# Altium integrated library Motorola Microcontroller 32-Bit.IntLib: 337 symbols (part 4 of 29)
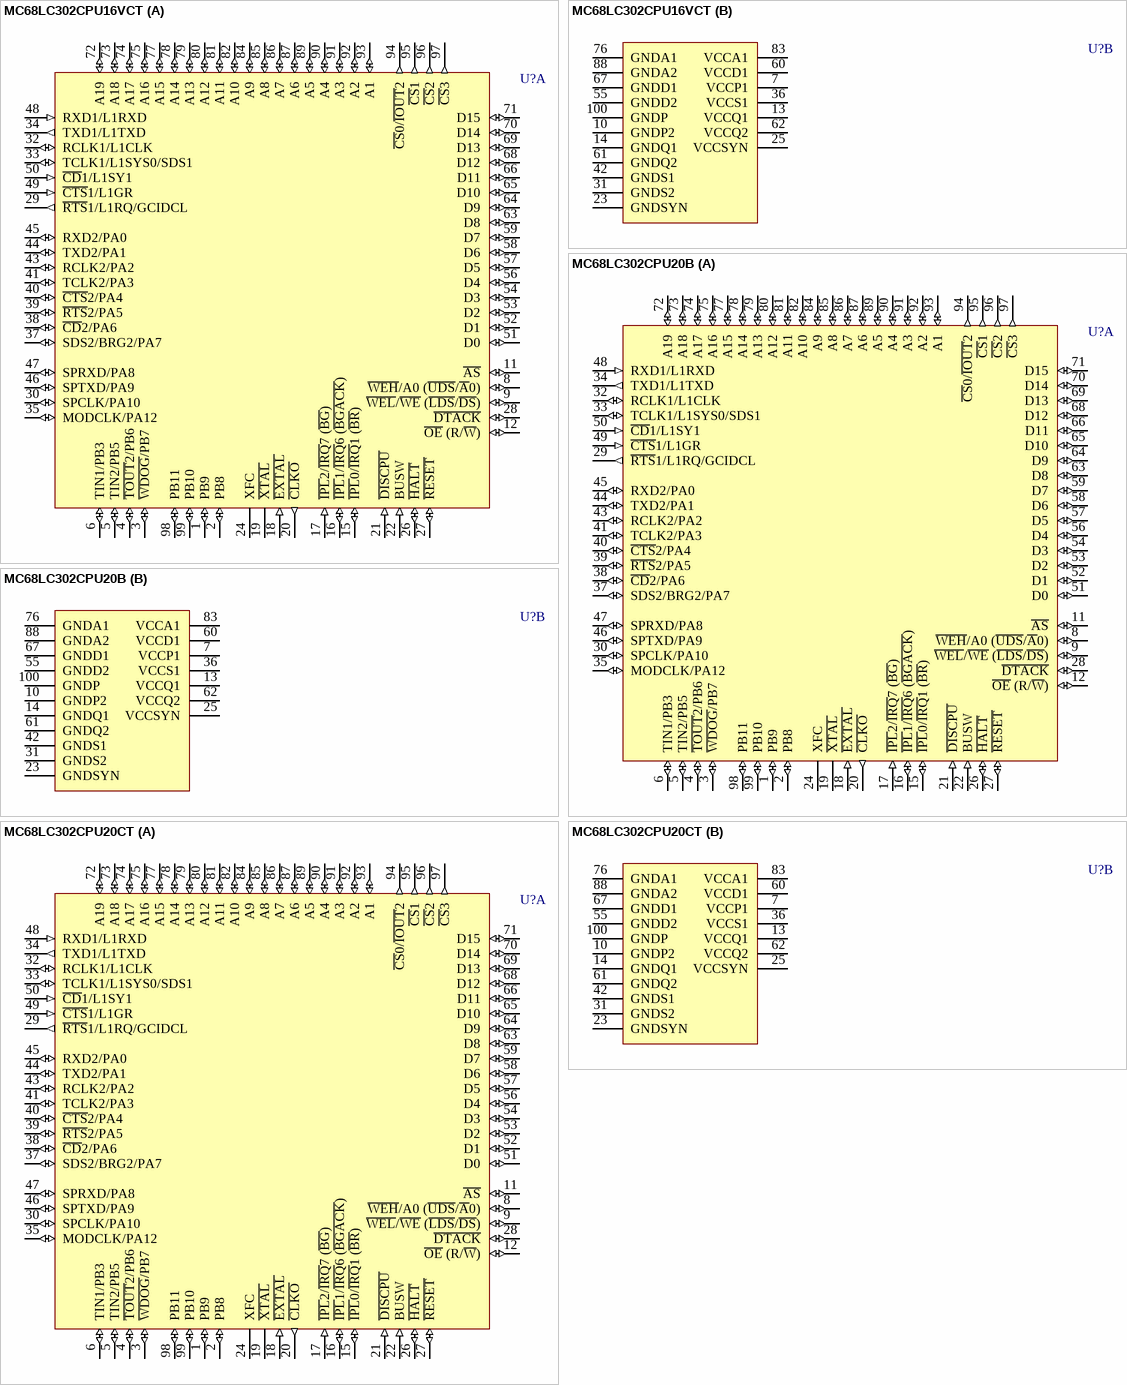
[diagram p243: symbols MC68LC302CPU16VCT to MC68LC302CPU20CT]

## MC68LC302CPU20CT
designator U?
Low Power Integrated Multiprotocol Processor; Published: 21-Mar-2003; LatestRevisionDate: 13-Apr-2006; LatestRevisionNote: IPC-7351 Footprint Added.; DatasheetVersion: Jan-1995; PackageVersion: 1999; PackageReference: 983-01; Publisher: Altium Limited; PackageDescription: 100-Pin Thin Quad Flat Pack 0.5 mm Pitch; ComponentLink1Description: Manufacturer Link; ComponentLink1URL: http://www.freescale.com/; ComponentLink2Description: Datasheet; ComponentLink2URL: http://www.freescale.com/files/netcomm/doc/data_sheet/MC68LC302.pdf
footprint 983-01_N (Thin QFP, 100-Leads, Body 14x14mm, Pitch 0.5mm, IPC Medium Density)
footprint 983-01_L (Thin QFP, 100-Leads, Body 14x14mm, Pitch 0.5mm, IPC High Density)
footprint 983-01_M (Thin QFP, 100-Leads, Body 14x14mm, Pitch 0.5mm, IPC Low Density)
3D model MC68LC302-983 (100-Pin Thin Quad Flat Pack 0.5 mm Pitch)
part A pins: 1 PB9 (io), 2 PB8 (io), 3 ~{WDOG}/PB7 (io), 4 ~{TOUT}2/PB6 (io), 5 TIN2/PB5 (io), 6 TIN1/PB3 (io), 8 ~{WEH}/A0 (~{UDS}/~{A}0) (io), 9 ~{WEL}/~{WE} (~{LDS}/~{DS}) (io), 11 ~{AS} (io), 12 ~{OE} (R/~{W}) (io), 15 ~{IPL}0/~{IRQ}1 (~{BR}) (io), 16 ~{IPL}1/~{IRQ}6 (~{BGACK}) (io), 17 ~{IPL}2/~{IRQ}7 (~{BG}) (in), 18 ~{EXTAL} (in), 19 ~{XTAL}, 20 ~{CLKO} (out), 21 ~{DISCPU} (in), 22 BUSW (in), 24 XFC, 26 ~{HALT} (io), 27 ~{RESET} (io), 28 ~{DTACK} (io), 29 ~{RTS}1/L1RQ/GCIDCL (out), 30 SPCLK/PA10 (io), 32 RCLK1/L1CLK (io), 33 TCLK1/L1SYS0/SDS1 (io), 34 TXD1/L1TXD (out), 35 MODCLK/PA12 (io), 37 SDS2/BRG2/PA7 (io), 38 ~{CD}2/PA6 (io), 39 ~{RTS}2/PA5 (io), 40 ~{CTS}2/PA4 (io), 41 TCLK2/PA3 (io), 43 RCLK2/PA2 (io), 44 TXD2/PA1 (io), 45 RXD2/PA0 (io), 46 SPTXD/PA9 (io), 47 SPRXD/PA8 (io), 48 RXD1/L1RXD (in), 49 ~{CTS}1/L1GR (in), 50 ~{CD}1/L1SY1 (in), 51 D0 (io), 52 D1 (io), 53 D2 (io), 54 D3 (io), 56 D4 (io), 57 D5 (io), 58 D6 (io), 59 D7 (io), 63 D8 (io), 64 D9 (io), 65 D10 (io), 66 D11 (io), 68 D12 (io), 69 D13 (io), 70 D14 (io), 71 D15 (io), 72 A19 (io), 73 A18 (io), 74 A17 (io), 75 A16 (io), 77 A15 (io), 78 A14 (io), 79 A13 (io), 80 A12 (io), 81 A11 (io), 82 A10 (io), 84 A9 (io), 85 A8 (io), 86 A7 (io), 87 A6 (io), 89 A5 (io), 90 A4 (io), 91 A3 (io), 92 A2 (io), 93 A1 (io), 94 ~{CS}0/~{IOUT}2 (out), 95 ~{CS}1 (out), 96 ~{CS}2 (out), 97 ~{CS}3 (out), 98 PB11 (io), 99 PB10 (io)
part B pins: 7 VCCP1 (power), 10 GNDP2 (power), 13 VCCQ1 (power), 14 GNDQ1 (power), 23 GNDSYN (power), 25 VCCSYN (power), 31 GNDS2 (power), 36 VCCS1 (power), 42 GNDS1 (power), 55 GNDD2 (power), 60 VCCD1 (power), 61 GNDQ2 (power), 62 VCCQ2 (power), 67 GNDD1 (power), 76 GNDA1 (power), 83 VCCA1 (power), 88 GNDA2 (power), 100 GNDP (power)

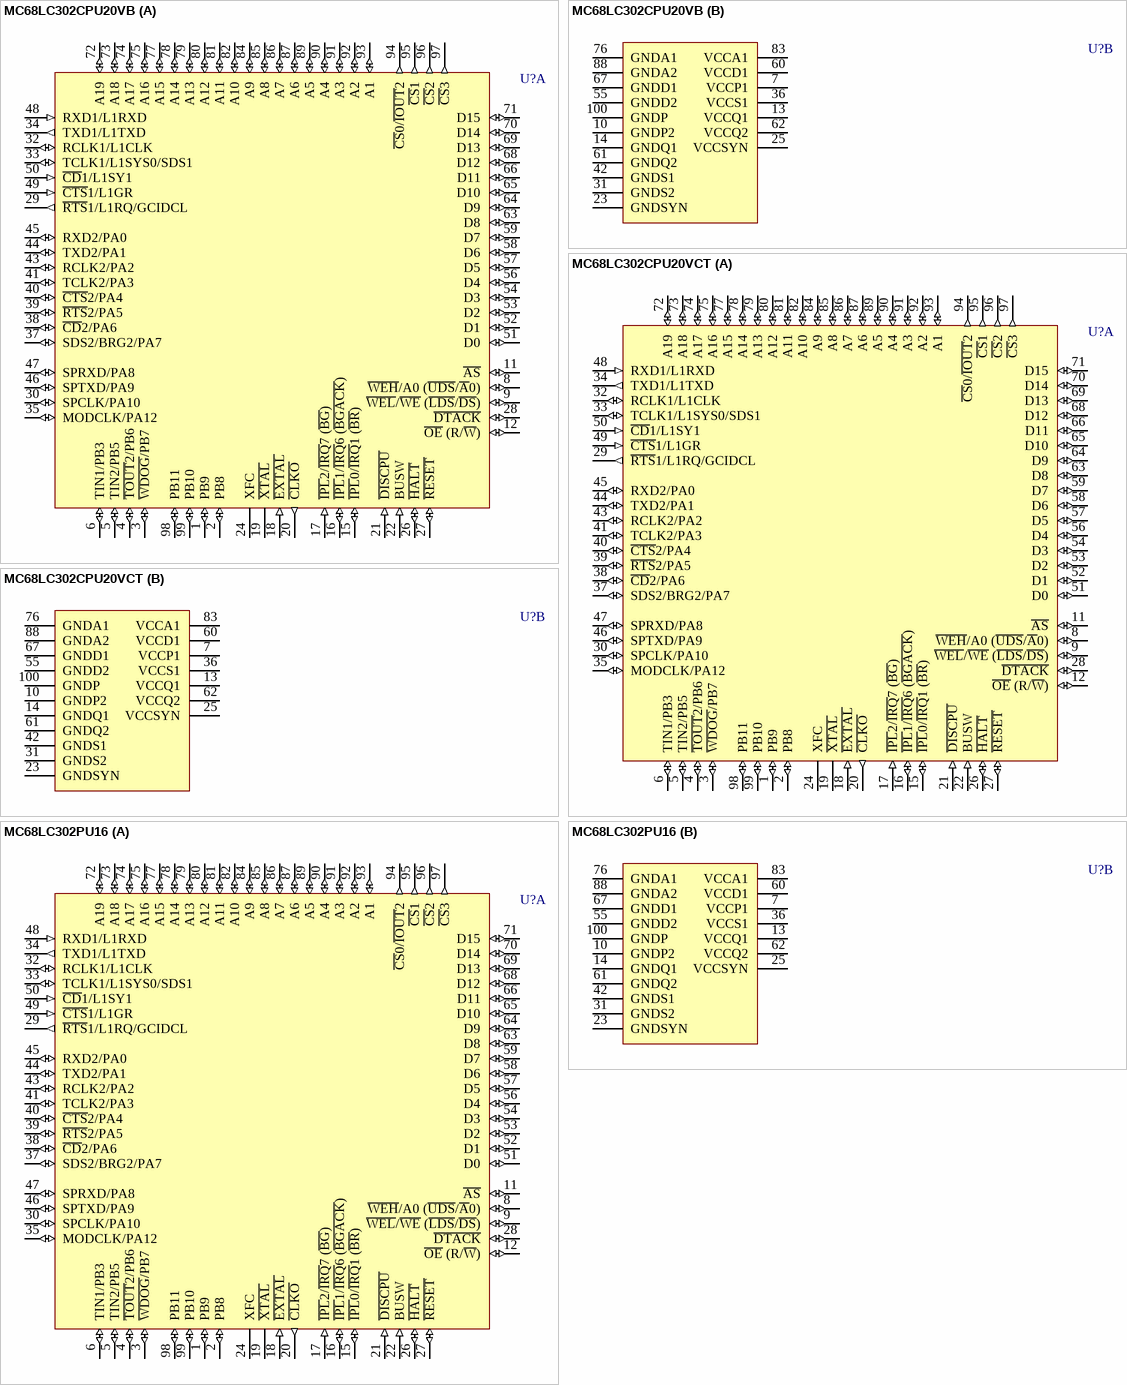
[diagram p33: symbols MC68LC302CPU20VB to MC68LC302PU16]

## MC68LC302CPU20VB
designator U?
Low Power Integrated Multiprotocol Processor; Published: 21-Mar-2003; LatestRevisionDate: 13-Apr-2006; LatestRevisionNote: IPC-7351 Footprint Added.; DatasheetVersion: Jan-1995; PackageVersion: 1999; PackageReference: 983-01; Publisher: Altium Limited; PackageDescription: 100-Pin Thin Quad Flat Pack 0.5 mm Pitch; ComponentLink1Description: Manufacturer Link; ComponentLink1URL: http://www.freescale.com/; ComponentLink2Description: Datasheet; ComponentLink2URL: http://www.freescale.com/files/netcomm/doc/data_sheet/MC68LC302.pdf
footprint 983-01_N (Thin QFP, 100-Leads, Body 14x14mm, Pitch 0.5mm, IPC Medium Density)
footprint 983-01_L (Thin QFP, 100-Leads, Body 14x14mm, Pitch 0.5mm, IPC High Density)
footprint 983-01_M (Thin QFP, 100-Leads, Body 14x14mm, Pitch 0.5mm, IPC Low Density)
3D model MC68LC302-983 (100-Pin Thin Quad Flat Pack 0.5 mm Pitch)
part A pins: 1 PB9 (io), 2 PB8 (io), 3 ~{WDOG}/PB7 (io), 4 ~{TOUT}2/PB6 (io), 5 TIN2/PB5 (io), 6 TIN1/PB3 (io), 8 ~{WEH}/A0 (~{UDS}/~{A}0) (io), 9 ~{WEL}/~{WE} (~{LDS}/~{DS}) (io), 11 ~{AS} (io), 12 ~{OE} (R/~{W}) (io), 15 ~{IPL}0/~{IRQ}1 (~{BR}) (io), 16 ~{IPL}1/~{IRQ}6 (~{BGACK}) (io), 17 ~{IPL}2/~{IRQ}7 (~{BG}) (in), 18 ~{EXTAL} (in), 19 ~{XTAL}, 20 ~{CLKO} (out), 21 ~{DISCPU} (in), 22 BUSW (in), 24 XFC, 26 ~{HALT} (io), 27 ~{RESET} (io), 28 ~{DTACK} (io), 29 ~{RTS}1/L1RQ/GCIDCL (out), 30 SPCLK/PA10 (io), 32 RCLK1/L1CLK (io), 33 TCLK1/L1SYS0/SDS1 (io), 34 TXD1/L1TXD (out), 35 MODCLK/PA12 (io), 37 SDS2/BRG2/PA7 (io), 38 ~{CD}2/PA6 (io), 39 ~{RTS}2/PA5 (io), 40 ~{CTS}2/PA4 (io), 41 TCLK2/PA3 (io), 43 RCLK2/PA2 (io), 44 TXD2/PA1 (io), 45 RXD2/PA0 (io), 46 SPTXD/PA9 (io), 47 SPRXD/PA8 (io), 48 RXD1/L1RXD (in), 49 ~{CTS}1/L1GR (in), 50 ~{CD}1/L1SY1 (in), 51 D0 (io), 52 D1 (io), 53 D2 (io), 54 D3 (io), 56 D4 (io), 57 D5 (io), 58 D6 (io), 59 D7 (io), 63 D8 (io), 64 D9 (io), 65 D10 (io), 66 D11 (io), 68 D12 (io), 69 D13 (io), 70 D14 (io), 71 D15 (io), 72 A19 (io), 73 A18 (io), 74 A17 (io), 75 A16 (io), 77 A15 (io), 78 A14 (io), 79 A13 (io), 80 A12 (io), 81 A11 (io), 82 A10 (io), 84 A9 (io), 85 A8 (io), 86 A7 (io), 87 A6 (io), 89 A5 (io), 90 A4 (io), 91 A3 (io), 92 A2 (io), 93 A1 (io), 94 ~{CS}0/~{IOUT}2 (out), 95 ~{CS}1 (out), 96 ~{CS}2 (out), 97 ~{CS}3 (out), 98 PB11 (io), 99 PB10 (io)
part B pins: 7 VCCP1 (power), 10 GNDP2 (power), 13 VCCQ1 (power), 14 GNDQ1 (power), 23 GNDSYN (power), 25 VCCSYN (power), 31 GNDS2 (power), 36 VCCS1 (power), 42 GNDS1 (power), 55 GNDD2 (power), 60 VCCD1 (power), 61 GNDQ2 (power), 62 VCCQ2 (power), 67 GNDD1 (power), 76 GNDA1 (power), 83 VCCA1 (power), 88 GNDA2 (power), 100 GNDP (power)

## MC68LC302CPU20VCT
designator U?
Low Power Integrated Multiprotocol Processor; Published: 21-Mar-2003; LatestRevisionDate: 13-Apr-2006; LatestRevisionNote: IPC-7351 Footprint Added.; DatasheetVersion: Jan-1995; PackageVersion: 1999; PackageReference: 983-01; Publisher: Altium Limited; PackageDescription: 100-Pin Thin Quad Flat Pack 0.5 mm Pitch; ComponentLink1Description: Manufacturer Link; ComponentLink1URL: http://www.freescale.com/; ComponentLink2Description: Datasheet; ComponentLink2URL: http://www.freescale.com/files/netcomm/doc/data_sheet/MC68LC302.pdf
footprint 983-01_N (Thin QFP, 100-Leads, Body 14x14mm, Pitch 0.5mm, IPC Medium Density)
footprint 983-01_L (Thin QFP, 100-Leads, Body 14x14mm, Pitch 0.5mm, IPC High Density)
footprint 983-01_M (Thin QFP, 100-Leads, Body 14x14mm, Pitch 0.5mm, IPC Low Density)
3D model MC68LC302-983 (100-Pin Thin Quad Flat Pack 0.5 mm Pitch)
part A pins: 1 PB9 (io), 2 PB8 (io), 3 ~{WDOG}/PB7 (io), 4 ~{TOUT}2/PB6 (io), 5 TIN2/PB5 (io), 6 TIN1/PB3 (io), 8 ~{WEH}/A0 (~{UDS}/~{A}0) (io), 9 ~{WEL}/~{WE} (~{LDS}/~{DS}) (io), 11 ~{AS} (io), 12 ~{OE} (R/~{W}) (io), 15 ~{IPL}0/~{IRQ}1 (~{BR}) (io), 16 ~{IPL}1/~{IRQ}6 (~{BGACK}) (io), 17 ~{IPL}2/~{IRQ}7 (~{BG}) (in), 18 ~{EXTAL} (in), 19 ~{XTAL}, 20 ~{CLKO} (out), 21 ~{DISCPU} (in), 22 BUSW (in), 24 XFC, 26 ~{HALT} (io), 27 ~{RESET} (io), 28 ~{DTACK} (io), 29 ~{RTS}1/L1RQ/GCIDCL (out), 30 SPCLK/PA10 (io), 32 RCLK1/L1CLK (io), 33 TCLK1/L1SYS0/SDS1 (io), 34 TXD1/L1TXD (out), 35 MODCLK/PA12 (io), 37 SDS2/BRG2/PA7 (io), 38 ~{CD}2/PA6 (io), 39 ~{RTS}2/PA5 (io), 40 ~{CTS}2/PA4 (io), 41 TCLK2/PA3 (io), 43 RCLK2/PA2 (io), 44 TXD2/PA1 (io), 45 RXD2/PA0 (io), 46 SPTXD/PA9 (io), 47 SPRXD/PA8 (io), 48 RXD1/L1RXD (in), 49 ~{CTS}1/L1GR (in), 50 ~{CD}1/L1SY1 (in), 51 D0 (io), 52 D1 (io), 53 D2 (io), 54 D3 (io), 56 D4 (io), 57 D5 (io), 58 D6 (io), 59 D7 (io), 63 D8 (io), 64 D9 (io), 65 D10 (io), 66 D11 (io), 68 D12 (io), 69 D13 (io), 70 D14 (io), 71 D15 (io), 72 A19 (io), 73 A18 (io), 74 A17 (io), 75 A16 (io), 77 A15 (io), 78 A14 (io), 79 A13 (io), 80 A12 (io), 81 A11 (io), 82 A10 (io), 84 A9 (io), 85 A8 (io), 86 A7 (io), 87 A6 (io), 89 A5 (io), 90 A4 (io), 91 A3 (io), 92 A2 (io), 93 A1 (io), 94 ~{CS}0/~{IOUT}2 (out), 95 ~{CS}1 (out), 96 ~{CS}2 (out), 97 ~{CS}3 (out), 98 PB11 (io), 99 PB10 (io)
part B pins: 7 VCCP1 (power), 10 GNDP2 (power), 13 VCCQ1 (power), 14 GNDQ1 (power), 23 GNDSYN (power), 25 VCCSYN (power), 31 GNDS2 (power), 36 VCCS1 (power), 42 GNDS1 (power), 55 GNDD2 (power), 60 VCCD1 (power), 61 GNDQ2 (power), 62 VCCQ2 (power), 67 GNDD1 (power), 76 GNDA1 (power), 83 VCCA1 (power), 88 GNDA2 (power), 100 GNDP (power)

## MC68LC302PU16
designator U?
Low Cost Integrated Multiprotocol Processor; Published: 21-Mar-2003; LatestRevisionDate: 13-Apr-2006; LatestRevisionNote: IPC-7351 Footprint Added.; DatasheetVersion: Jan-1995; PackageVersion: 1999; PackageReference: 983-01; Publisher: Altium Limited; PackageDescription: 100-Pin Thin Quad Flat Pack 0.5 mm Pitch; ComponentLink1Description: Manufacturer Link; ComponentLink1URL: http://www.freescale.com/; ComponentLink2Description: Datasheet; ComponentLink2URL: http://www.freescale.com/files/netcomm/doc/data_sheet/MC68LC302.pdf
footprint 983-01_N (Thin QFP, 100-Leads, Body 14x14mm, Pitch 0.5mm, IPC Medium Density)
footprint 983-01_L (Thin QFP, 100-Leads, Body 14x14mm, Pitch 0.5mm, IPC High Density)
footprint 983-01_M (Thin QFP, 100-Leads, Body 14x14mm, Pitch 0.5mm, IPC Low Density)
3D model MC68LC302-983 (100-Pin Thin Quad Flat Pack 0.5 mm Pitch)
part A pins: 1 PB9 (io), 2 PB8 (io), 3 ~{WDOG}/PB7 (io), 4 ~{TOUT}2/PB6 (io), 5 TIN2/PB5 (io), 6 TIN1/PB3 (io), 8 ~{WEH}/A0 (~{UDS}/~{A}0) (io), 9 ~{WEL}/~{WE} (~{LDS}/~{DS}) (io), 11 ~{AS} (io), 12 ~{OE} (R/~{W}) (io), 15 ~{IPL}0/~{IRQ}1 (~{BR}) (io), 16 ~{IPL}1/~{IRQ}6 (~{BGACK}) (io), 17 ~{IPL}2/~{IRQ}7 (~{BG}) (in), 18 ~{EXTAL} (in), 19 ~{XTAL}, 20 ~{CLKO} (out), 21 ~{DISCPU} (in), 22 BUSW (in), 24 XFC, 26 ~{HALT} (io), 27 ~{RESET} (io), 28 ~{DTACK} (io), 29 ~{RTS}1/L1RQ/GCIDCL (out), 30 SPCLK/PA10 (io), 32 RCLK1/L1CLK (io), 33 TCLK1/L1SYS0/SDS1 (io), 34 TXD1/L1TXD (out), 35 MODCLK/PA12 (io), 37 SDS2/BRG2/PA7 (io), 38 ~{CD}2/PA6 (io), 39 ~{RTS}2/PA5 (io), 40 ~{CTS}2/PA4 (io), 41 TCLK2/PA3 (io), 43 RCLK2/PA2 (io), 44 TXD2/PA1 (io), 45 RXD2/PA0 (io), 46 SPTXD/PA9 (io), 47 SPRXD/PA8 (io), 48 RXD1/L1RXD (in), 49 ~{CTS}1/L1GR (in), 50 ~{CD}1/L1SY1 (in), 51 D0 (io), 52 D1 (io), 53 D2 (io), 54 D3 (io), 56 D4 (io), 57 D5 (io), 58 D6 (io), 59 D7 (io), 63 D8 (io), 64 D9 (io), 65 D10 (io), 66 D11 (io), 68 D12 (io), 69 D13 (io), 70 D14 (io), 71 D15 (io), 72 A19 (io), 73 A18 (io), 74 A17 (io), 75 A16 (io), 77 A15 (io), 78 A14 (io), 79 A13 (io), 80 A12 (io), 81 A11 (io), 82 A10 (io), 84 A9 (io), 85 A8 (io), 86 A7 (io), 87 A6 (io), 89 A5 (io), 90 A4 (io), 91 A3 (io), 92 A2 (io), 93 A1 (io), 94 ~{CS}0/~{IOUT}2 (out), 95 ~{CS}1 (out), 96 ~{CS}2 (out), 97 ~{CS}3 (out), 98 PB11 (io), 99 PB10 (io)
part B pins: 7 VCCP1 (power), 10 GNDP2 (power), 13 VCCQ1 (power), 14 GNDQ1 (power), 23 GNDSYN (power), 25 VCCSYN (power), 31 GNDS2 (power), 36 VCCS1 (power), 42 GNDS1 (power), 55 GNDD2 (power), 60 VCCD1 (power), 61 GNDQ2 (power), 62 VCCQ2 (power), 67 GNDD1 (power), 76 GNDA1 (power), 83 VCCA1 (power), 88 GNDA2 (power), 100 GNDP (power)

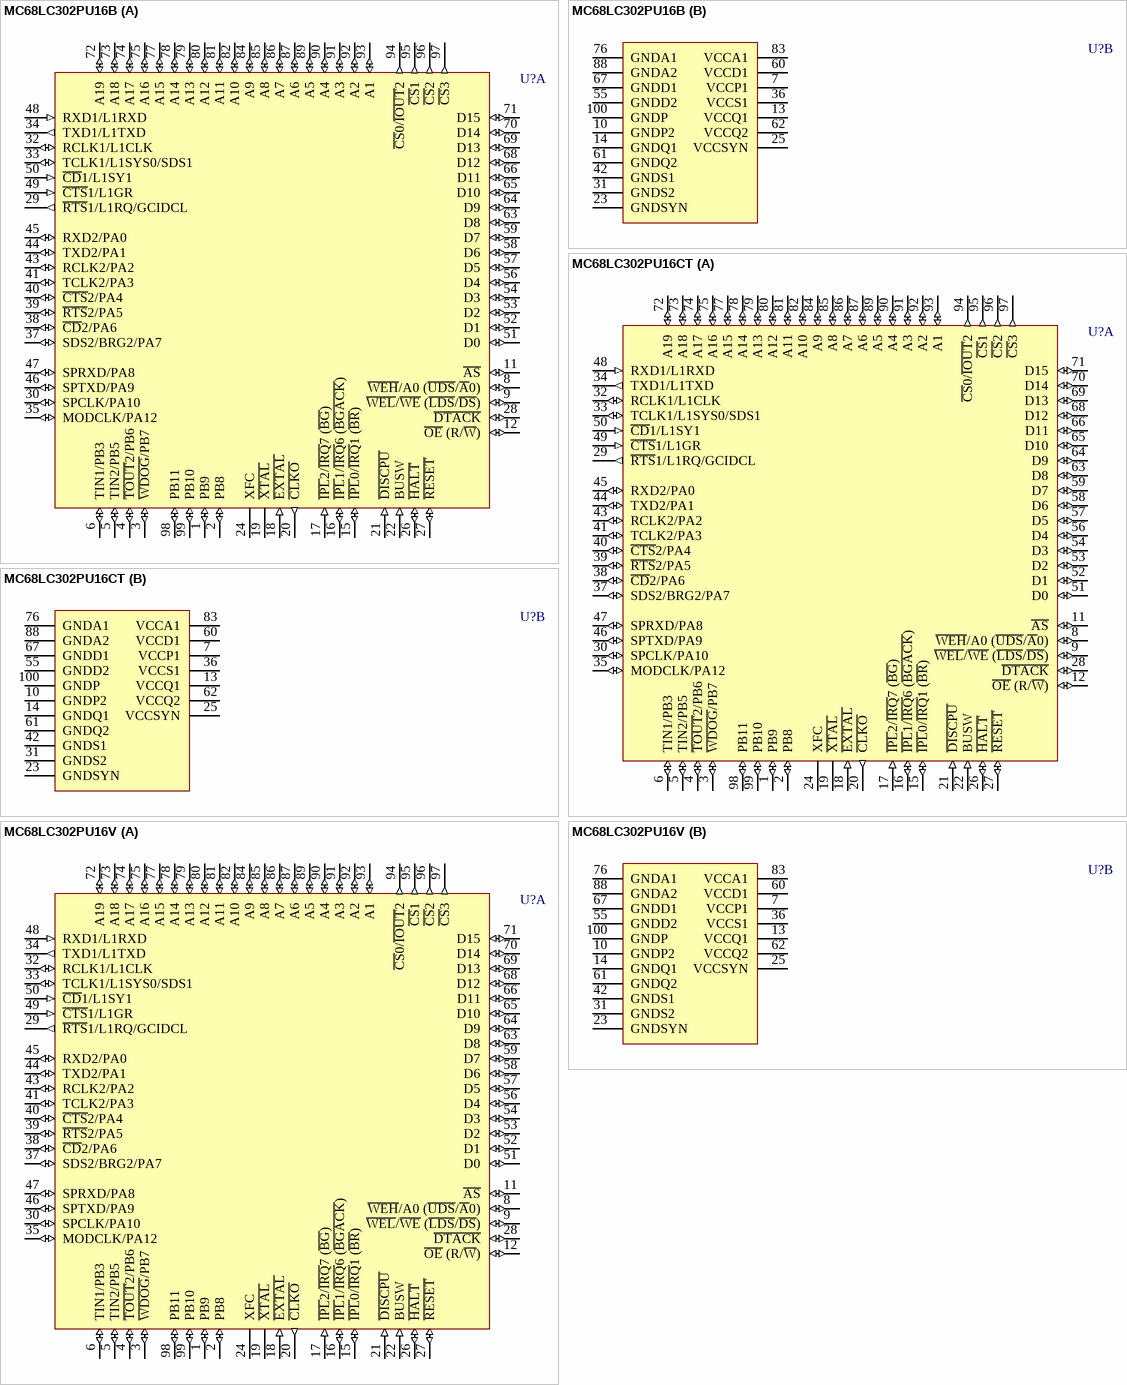
[diagram p34: symbols MC68LC302PU16B to MC68LC302PU16V]

## MC68LC302PU16B
designator U?
Low Power Integrated Multiprotocol Processor; Published: 21-Mar-2003; LatestRevisionDate: 13-Apr-2006; LatestRevisionNote: IPC-7351 Footprint Added.; DatasheetVersion: Jan-1995; PackageVersion: 1999; PackageReference: 983-01; Publisher: Altium Limited; PackageDescription: 100-Pin Thin Quad Flat Pack 0.5 mm Pitch; ComponentLink1Description: Manufacturer Link; ComponentLink1URL: http://www.freescale.com/; ComponentLink2Description: Datasheet; ComponentLink2URL: http://www.freescale.com/files/netcomm/doc/data_sheet/MC68LC302.pdf
footprint 983-01_N (Thin QFP, 100-Leads, Body 14x14mm, Pitch 0.5mm, IPC Medium Density)
footprint 983-01_L (Thin QFP, 100-Leads, Body 14x14mm, Pitch 0.5mm, IPC High Density)
footprint 983-01_M (Thin QFP, 100-Leads, Body 14x14mm, Pitch 0.5mm, IPC Low Density)
3D model MC68LC302-983 (100-Pin Thin Quad Flat Pack 0.5 mm Pitch)
part A pins: 1 PB9 (io), 2 PB8 (io), 3 ~{WDOG}/PB7 (io), 4 ~{TOUT}2/PB6 (io), 5 TIN2/PB5 (io), 6 TIN1/PB3 (io), 8 ~{WEH}/A0 (~{UDS}/~{A}0) (io), 9 ~{WEL}/~{WE} (~{LDS}/~{DS}) (io), 11 ~{AS} (io), 12 ~{OE} (R/~{W}) (io), 15 ~{IPL}0/~{IRQ}1 (~{BR}) (io), 16 ~{IPL}1/~{IRQ}6 (~{BGACK}) (io), 17 ~{IPL}2/~{IRQ}7 (~{BG}) (in), 18 ~{EXTAL} (in), 19 ~{XTAL}, 20 ~{CLKO} (out), 21 ~{DISCPU} (in), 22 BUSW (in), 24 XFC, 26 ~{HALT} (io), 27 ~{RESET} (io), 28 ~{DTACK} (io), 29 ~{RTS}1/L1RQ/GCIDCL (out), 30 SPCLK/PA10 (io), 32 RCLK1/L1CLK (io), 33 TCLK1/L1SYS0/SDS1 (io), 34 TXD1/L1TXD (out), 35 MODCLK/PA12 (io), 37 SDS2/BRG2/PA7 (io), 38 ~{CD}2/PA6 (io), 39 ~{RTS}2/PA5 (io), 40 ~{CTS}2/PA4 (io), 41 TCLK2/PA3 (io), 43 RCLK2/PA2 (io), 44 TXD2/PA1 (io), 45 RXD2/PA0 (io), 46 SPTXD/PA9 (io), 47 SPRXD/PA8 (io), 48 RXD1/L1RXD (in), 49 ~{CTS}1/L1GR (in), 50 ~{CD}1/L1SY1 (in), 51 D0 (io), 52 D1 (io), 53 D2 (io), 54 D3 (io), 56 D4 (io), 57 D5 (io), 58 D6 (io), 59 D7 (io), 63 D8 (io), 64 D9 (io), 65 D10 (io), 66 D11 (io), 68 D12 (io), 69 D13 (io), 70 D14 (io), 71 D15 (io), 72 A19 (io), 73 A18 (io), 74 A17 (io), 75 A16 (io), 77 A15 (io), 78 A14 (io), 79 A13 (io), 80 A12 (io), 81 A11 (io), 82 A10 (io), 84 A9 (io), 85 A8 (io), 86 A7 (io), 87 A6 (io), 89 A5 (io), 90 A4 (io), 91 A3 (io), 92 A2 (io), 93 A1 (io), 94 ~{CS}0/~{IOUT}2 (out), 95 ~{CS}1 (out), 96 ~{CS}2 (out), 97 ~{CS}3 (out), 98 PB11 (io), 99 PB10 (io)
part B pins: 7 VCCP1 (power), 10 GNDP2 (power), 13 VCCQ1 (power), 14 GNDQ1 (power), 23 GNDSYN (power), 25 VCCSYN (power), 31 GNDS2 (power), 36 VCCS1 (power), 42 GNDS1 (power), 55 GNDD2 (power), 60 VCCD1 (power), 61 GNDQ2 (power), 62 VCCQ2 (power), 67 GNDD1 (power), 76 GNDA1 (power), 83 VCCA1 (power), 88 GNDA2 (power), 100 GNDP (power)

## MC68LC302PU16CT
designator U?
Low Power Integrated Multiprotocol Processor; Published: 21-Mar-2003; LatestRevisionDate: 13-Apr-2006; LatestRevisionNote: IPC-7351 Footprint Added.; DatasheetVersion: Jan-1995; PackageVersion: 1999; PackageReference: 983-01; Publisher: Altium Limited; PackageDescription: 100-Pin Thin Quad Flat Pack 0.5 mm Pitch; ComponentLink1Description: Manufacturer Link; ComponentLink1URL: http://www.freescale.com/; ComponentLink2Description: Datasheet; ComponentLink2URL: http://www.freescale.com/files/netcomm/doc/data_sheet/MC68LC302.pdf
footprint 983-01_N (Thin QFP, 100-Leads, Body 14x14mm, Pitch 0.5mm, IPC Medium Density)
footprint 983-01_L (Thin QFP, 100-Leads, Body 14x14mm, Pitch 0.5mm, IPC High Density)
footprint 983-01_M (Thin QFP, 100-Leads, Body 14x14mm, Pitch 0.5mm, IPC Low Density)
3D model MC68LC302-983 (100-Pin Thin Quad Flat Pack 0.5 mm Pitch)
part A pins: 1 PB9 (io), 2 PB8 (io), 3 ~{WDOG}/PB7 (io), 4 ~{TOUT}2/PB6 (io), 5 TIN2/PB5 (io), 6 TIN1/PB3 (io), 8 ~{WEH}/A0 (~{UDS}/~{A}0) (io), 9 ~{WEL}/~{WE} (~{LDS}/~{DS}) (io), 11 ~{AS} (io), 12 ~{OE} (R/~{W}) (io), 15 ~{IPL}0/~{IRQ}1 (~{BR}) (io), 16 ~{IPL}1/~{IRQ}6 (~{BGACK}) (io), 17 ~{IPL}2/~{IRQ}7 (~{BG}) (in), 18 ~{EXTAL} (in), 19 ~{XTAL}, 20 ~{CLKO} (out), 21 ~{DISCPU} (in), 22 BUSW (in), 24 XFC, 26 ~{HALT} (io), 27 ~{RESET} (io), 28 ~{DTACK} (io), 29 ~{RTS}1/L1RQ/GCIDCL (out), 30 SPCLK/PA10 (io), 32 RCLK1/L1CLK (io), 33 TCLK1/L1SYS0/SDS1 (io), 34 TXD1/L1TXD (out), 35 MODCLK/PA12 (io), 37 SDS2/BRG2/PA7 (io), 38 ~{CD}2/PA6 (io), 39 ~{RTS}2/PA5 (io), 40 ~{CTS}2/PA4 (io), 41 TCLK2/PA3 (io), 43 RCLK2/PA2 (io), 44 TXD2/PA1 (io), 45 RXD2/PA0 (io), 46 SPTXD/PA9 (io), 47 SPRXD/PA8 (io), 48 RXD1/L1RXD (in), 49 ~{CTS}1/L1GR (in), 50 ~{CD}1/L1SY1 (in), 51 D0 (io), 52 D1 (io), 53 D2 (io), 54 D3 (io), 56 D4 (io), 57 D5 (io), 58 D6 (io), 59 D7 (io), 63 D8 (io), 64 D9 (io), 65 D10 (io), 66 D11 (io), 68 D12 (io), 69 D13 (io), 70 D14 (io), 71 D15 (io), 72 A19 (io), 73 A18 (io), 74 A17 (io), 75 A16 (io), 77 A15 (io), 78 A14 (io), 79 A13 (io), 80 A12 (io), 81 A11 (io), 82 A10 (io), 84 A9 (io), 85 A8 (io), 86 A7 (io), 87 A6 (io), 89 A5 (io), 90 A4 (io), 91 A3 (io), 92 A2 (io), 93 A1 (io), 94 ~{CS}0/~{IOUT}2 (out), 95 ~{CS}1 (out), 96 ~{CS}2 (out), 97 ~{CS}3 (out), 98 PB11 (io), 99 PB10 (io)
part B pins: 7 VCCP1 (power), 10 GNDP2 (power), 13 VCCQ1 (power), 14 GNDQ1 (power), 23 GNDSYN (power), 25 VCCSYN (power), 31 GNDS2 (power), 36 VCCS1 (power), 42 GNDS1 (power), 55 GNDD2 (power), 60 VCCD1 (power), 61 GNDQ2 (power), 62 VCCQ2 (power), 67 GNDD1 (power), 76 GNDA1 (power), 83 VCCA1 (power), 88 GNDA2 (power), 100 GNDP (power)

## MC68LC302PU16V
designator U?
Low Cost Integrated Multiprotocol Processor; Published: 21-Mar-2003; LatestRevisionDate: 13-Apr-2006; LatestRevisionNote: IPC-7351 Footprint Added.; DatasheetVersion: Jan-1995; PackageVersion: 1999; PackageReference: 983-01; Publisher: Altium Limited; PackageDescription: 100-Pin Thin Quad Flat Pack 0.5 mm Pitch; ComponentLink1Description: Manufacturer Link; ComponentLink1URL: http://www.freescale.com/; ComponentLink2Description: Datasheet; ComponentLink2URL: http://www.freescale.com/files/netcomm/doc/data_sheet/MC68LC302.pdf
footprint 983-01_N (Thin QFP, 100-Leads, Body 14x14mm, Pitch 0.5mm, IPC Medium Density)
footprint 983-01_L (Thin QFP, 100-Leads, Body 14x14mm, Pitch 0.5mm, IPC High Density)
footprint 983-01_M (Thin QFP, 100-Leads, Body 14x14mm, Pitch 0.5mm, IPC Low Density)
3D model MC68LC302-983 (100-Pin Thin Quad Flat Pack 0.5 mm Pitch)
part A pins: 1 PB9 (io), 2 PB8 (io), 3 ~{WDOG}/PB7 (io), 4 ~{TOUT}2/PB6 (io), 5 TIN2/PB5 (io), 6 TIN1/PB3 (io), 8 ~{WEH}/A0 (~{UDS}/~{A}0) (io), 9 ~{WEL}/~{WE} (~{LDS}/~{DS}) (io), 11 ~{AS} (io), 12 ~{OE} (R/~{W}) (io), 15 ~{IPL}0/~{IRQ}1 (~{BR}) (io), 16 ~{IPL}1/~{IRQ}6 (~{BGACK}) (io), 17 ~{IPL}2/~{IRQ}7 (~{BG}) (in), 18 ~{EXTAL} (in), 19 ~{XTAL}, 20 ~{CLKO} (out), 21 ~{DISCPU} (in), 22 BUSW (in), 24 XFC, 26 ~{HALT} (io), 27 ~{RESET} (io), 28 ~{DTACK} (io), 29 ~{RTS}1/L1RQ/GCIDCL (out), 30 SPCLK/PA10 (io), 32 RCLK1/L1CLK (io), 33 TCLK1/L1SYS0/SDS1 (io), 34 TXD1/L1TXD (out), 35 MODCLK/PA12 (io), 37 SDS2/BRG2/PA7 (io), 38 ~{CD}2/PA6 (io), 39 ~{RTS}2/PA5 (io), 40 ~{CTS}2/PA4 (io), 41 TCLK2/PA3 (io), 43 RCLK2/PA2 (io), 44 TXD2/PA1 (io), 45 RXD2/PA0 (io), 46 SPTXD/PA9 (io), 47 SPRXD/PA8 (io), 48 RXD1/L1RXD (in), 49 ~{CTS}1/L1GR (in), 50 ~{CD}1/L1SY1 (in), 51 D0 (io), 52 D1 (io), 53 D2 (io), 54 D3 (io), 56 D4 (io), 57 D5 (io), 58 D6 (io), 59 D7 (io), 63 D8 (io), 64 D9 (io), 65 D10 (io), 66 D11 (io), 68 D12 (io), 69 D13 (io), 70 D14 (io), 71 D15 (io), 72 A19 (io), 73 A18 (io), 74 A17 (io), 75 A16 (io), 77 A15 (io), 78 A14 (io), 79 A13 (io), 80 A12 (io), 81 A11 (io), 82 A10 (io), 84 A9 (io), 85 A8 (io), 86 A7 (io), 87 A6 (io), 89 A5 (io), 90 A4 (io), 91 A3 (io), 92 A2 (io), 93 A1 (io), 94 ~{CS}0/~{IOUT}2 (out), 95 ~{CS}1 (out), 96 ~{CS}2 (out), 97 ~{CS}3 (out), 98 PB11 (io), 99 PB10 (io)
part B pins: 7 VCCP1 (power), 10 GNDP2 (power), 13 VCCQ1 (power), 14 GNDQ1 (power), 23 GNDSYN (power), 25 VCCSYN (power), 31 GNDS2 (power), 36 VCCS1 (power), 42 GNDS1 (power), 55 GNDD2 (power), 60 VCCD1 (power), 61 GNDQ2 (power), 62 VCCQ2 (power), 67 GNDD1 (power), 76 GNDA1 (power), 83 VCCA1 (power), 88 GNDA2 (power), 100 GNDP (power)

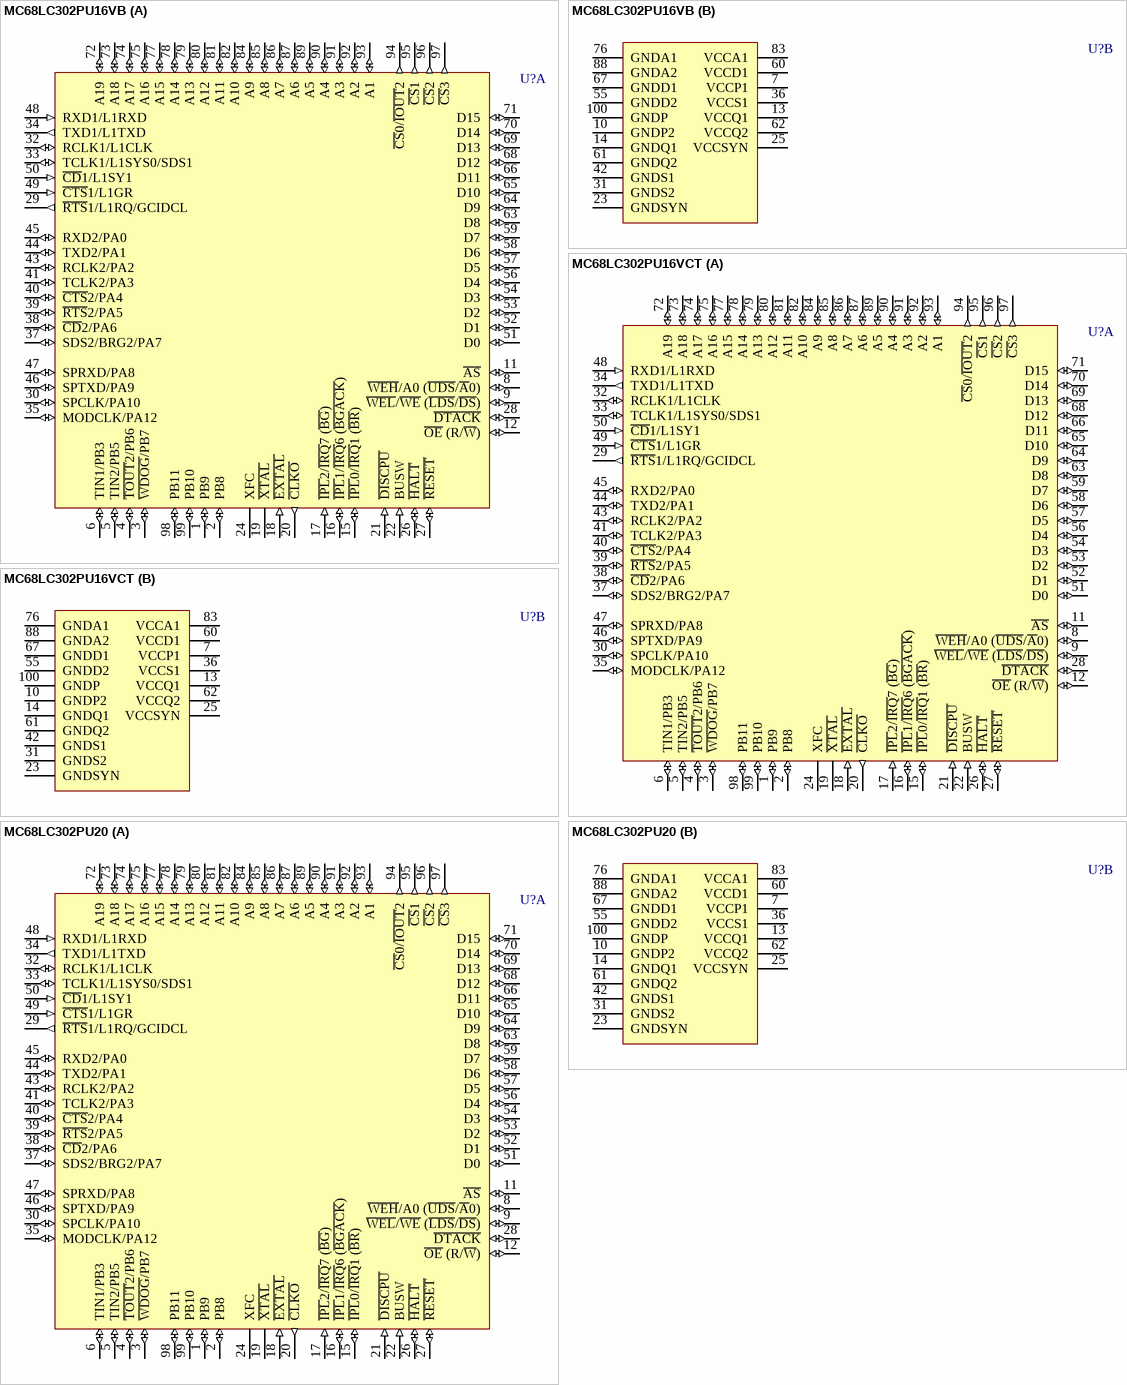
[diagram p35: symbols MC68LC302PU16VB to MC68LC302PU20]

## MC68LC302PU16VB
designator U?
Low Power Integrated Multiprotocol Processor; Published: 21-Mar-2003; LatestRevisionDate: 13-Apr-2006; LatestRevisionNote: IPC-7351 Footprint Added.; DatasheetVersion: Jan-1995; PackageVersion: 1999; PackageReference: 983-01; Publisher: Altium Limited; PackageDescription: 100-Pin Thin Quad Flat Pack 0.5 mm Pitch; ComponentLink1Description: Manufacturer Link; ComponentLink1URL: http://www.freescale.com/; ComponentLink2Description: Datasheet; ComponentLink2URL: http://www.freescale.com/files/netcomm/doc/data_sheet/MC68LC302.pdf
footprint 983-01_N (Thin QFP, 100-Leads, Body 14x14mm, Pitch 0.5mm, IPC Medium Density)
footprint 983-01_L (Thin QFP, 100-Leads, Body 14x14mm, Pitch 0.5mm, IPC High Density)
footprint 983-01_M (Thin QFP, 100-Leads, Body 14x14mm, Pitch 0.5mm, IPC Low Density)
3D model MC68LC302-983 (100-Pin Thin Quad Flat Pack 0.5 mm Pitch)
part A pins: 1 PB9 (io), 2 PB8 (io), 3 ~{WDOG}/PB7 (io), 4 ~{TOUT}2/PB6 (io), 5 TIN2/PB5 (io), 6 TIN1/PB3 (io), 8 ~{WEH}/A0 (~{UDS}/~{A}0) (io), 9 ~{WEL}/~{WE} (~{LDS}/~{DS}) (io), 11 ~{AS} (io), 12 ~{OE} (R/~{W}) (io), 15 ~{IPL}0/~{IRQ}1 (~{BR}) (io), 16 ~{IPL}1/~{IRQ}6 (~{BGACK}) (io), 17 ~{IPL}2/~{IRQ}7 (~{BG}) (in), 18 ~{EXTAL} (in), 19 ~{XTAL}, 20 ~{CLKO} (out), 21 ~{DISCPU} (in), 22 BUSW (in), 24 XFC, 26 ~{HALT} (io), 27 ~{RESET} (io), 28 ~{DTACK} (io), 29 ~{RTS}1/L1RQ/GCIDCL (out), 30 SPCLK/PA10 (io), 32 RCLK1/L1CLK (io), 33 TCLK1/L1SYS0/SDS1 (io), 34 TXD1/L1TXD (out), 35 MODCLK/PA12 (io), 37 SDS2/BRG2/PA7 (io), 38 ~{CD}2/PA6 (io), 39 ~{RTS}2/PA5 (io), 40 ~{CTS}2/PA4 (io), 41 TCLK2/PA3 (io), 43 RCLK2/PA2 (io), 44 TXD2/PA1 (io), 45 RXD2/PA0 (io), 46 SPTXD/PA9 (io), 47 SPRXD/PA8 (io), 48 RXD1/L1RXD (in), 49 ~{CTS}1/L1GR (in), 50 ~{CD}1/L1SY1 (in), 51 D0 (io), 52 D1 (io), 53 D2 (io), 54 D3 (io), 56 D4 (io), 57 D5 (io), 58 D6 (io), 59 D7 (io), 63 D8 (io), 64 D9 (io), 65 D10 (io), 66 D11 (io), 68 D12 (io), 69 D13 (io), 70 D14 (io), 71 D15 (io), 72 A19 (io), 73 A18 (io), 74 A17 (io), 75 A16 (io), 77 A15 (io), 78 A14 (io), 79 A13 (io), 80 A12 (io), 81 A11 (io), 82 A10 (io), 84 A9 (io), 85 A8 (io), 86 A7 (io), 87 A6 (io), 89 A5 (io), 90 A4 (io), 91 A3 (io), 92 A2 (io), 93 A1 (io), 94 ~{CS}0/~{IOUT}2 (out), 95 ~{CS}1 (out), 96 ~{CS}2 (out), 97 ~{CS}3 (out), 98 PB11 (io), 99 PB10 (io)
part B pins: 7 VCCP1 (power), 10 GNDP2 (power), 13 VCCQ1 (power), 14 GNDQ1 (power), 23 GNDSYN (power), 25 VCCSYN (power), 31 GNDS2 (power), 36 VCCS1 (power), 42 GNDS1 (power), 55 GNDD2 (power), 60 VCCD1 (power), 61 GNDQ2 (power), 62 VCCQ2 (power), 67 GNDD1 (power), 76 GNDA1 (power), 83 VCCA1 (power), 88 GNDA2 (power), 100 GNDP (power)

## MC68LC302PU16VCT
designator U?
Low Power Integrated Multiprotocol Processor; Published: 21-Mar-2003; LatestRevisionDate: 13-Apr-2006; LatestRevisionNote: IPC-7351 Footprint Added.; DatasheetVersion: Jan-1995; PackageVersion: 1999; PackageReference: 983-01; Publisher: Altium Limited; PackageDescription: 100-Pin Thin Quad Flat Pack 0.5 mm Pitch; ComponentLink1Description: Manufacturer Link; ComponentLink1URL: http://www.freescale.com/; ComponentLink2Description: Datasheet; ComponentLink2URL: http://www.freescale.com/files/netcomm/doc/data_sheet/MC68LC302.pdf
footprint 983-01_N (Thin QFP, 100-Leads, Body 14x14mm, Pitch 0.5mm, IPC Medium Density)
footprint 983-01_L (Thin QFP, 100-Leads, Body 14x14mm, Pitch 0.5mm, IPC High Density)
footprint 983-01_M (Thin QFP, 100-Leads, Body 14x14mm, Pitch 0.5mm, IPC Low Density)
3D model MC68LC302-983 (100-Pin Thin Quad Flat Pack 0.5 mm Pitch)
part A pins: 1 PB9 (io), 2 PB8 (io), 3 ~{WDOG}/PB7 (io), 4 ~{TOUT}2/PB6 (io), 5 TIN2/PB5 (io), 6 TIN1/PB3 (io), 8 ~{WEH}/A0 (~{UDS}/~{A}0) (io), 9 ~{WEL}/~{WE} (~{LDS}/~{DS}) (io), 11 ~{AS} (io), 12 ~{OE} (R/~{W}) (io), 15 ~{IPL}0/~{IRQ}1 (~{BR}) (io), 16 ~{IPL}1/~{IRQ}6 (~{BGACK}) (io), 17 ~{IPL}2/~{IRQ}7 (~{BG}) (in), 18 ~{EXTAL} (in), 19 ~{XTAL}, 20 ~{CLKO} (out), 21 ~{DISCPU} (in), 22 BUSW (in), 24 XFC, 26 ~{HALT} (io), 27 ~{RESET} (io), 28 ~{DTACK} (io), 29 ~{RTS}1/L1RQ/GCIDCL (out), 30 SPCLK/PA10 (io), 32 RCLK1/L1CLK (io), 33 TCLK1/L1SYS0/SDS1 (io), 34 TXD1/L1TXD (out), 35 MODCLK/PA12 (io), 37 SDS2/BRG2/PA7 (io), 38 ~{CD}2/PA6 (io), 39 ~{RTS}2/PA5 (io), 40 ~{CTS}2/PA4 (io), 41 TCLK2/PA3 (io), 43 RCLK2/PA2 (io), 44 TXD2/PA1 (io), 45 RXD2/PA0 (io), 46 SPTXD/PA9 (io), 47 SPRXD/PA8 (io), 48 RXD1/L1RXD (in), 49 ~{CTS}1/L1GR (in), 50 ~{CD}1/L1SY1 (in), 51 D0 (io), 52 D1 (io), 53 D2 (io), 54 D3 (io), 56 D4 (io), 57 D5 (io), 58 D6 (io), 59 D7 (io), 63 D8 (io), 64 D9 (io), 65 D10 (io), 66 D11 (io), 68 D12 (io), 69 D13 (io), 70 D14 (io), 71 D15 (io), 72 A19 (io), 73 A18 (io), 74 A17 (io), 75 A16 (io), 77 A15 (io), 78 A14 (io), 79 A13 (io), 80 A12 (io), 81 A11 (io), 82 A10 (io), 84 A9 (io), 85 A8 (io), 86 A7 (io), 87 A6 (io), 89 A5 (io), 90 A4 (io), 91 A3 (io), 92 A2 (io), 93 A1 (io), 94 ~{CS}0/~{IOUT}2 (out), 95 ~{CS}1 (out), 96 ~{CS}2 (out), 97 ~{CS}3 (out), 98 PB11 (io), 99 PB10 (io)
part B pins: 7 VCCP1 (power), 10 GNDP2 (power), 13 VCCQ1 (power), 14 GNDQ1 (power), 23 GNDSYN (power), 25 VCCSYN (power), 31 GNDS2 (power), 36 VCCS1 (power), 42 GNDS1 (power), 55 GNDD2 (power), 60 VCCD1 (power), 61 GNDQ2 (power), 62 VCCQ2 (power), 67 GNDD1 (power), 76 GNDA1 (power), 83 VCCA1 (power), 88 GNDA2 (power), 100 GNDP (power)

## MC68LC302PU20
designator U?
Low Cost Integrated Multiprotocol Processor; Published: 21-Mar-2003; LatestRevisionDate: 13-Apr-2006; LatestRevisionNote: IPC-7351 Footprint Added.; DatasheetVersion: Jan-1995; PackageVersion: 1999; PackageReference: 983-01; Publisher: Altium Limited; PackageDescription: 100-Pin Thin Quad Flat Pack 0.5 mm Pitch; ComponentLink1Description: Manufacturer Link; ComponentLink1URL: http://www.freescale.com/; ComponentLink2Description: Datasheet; ComponentLink2URL: http://www.freescale.com/files/netcomm/doc/data_sheet/MC68LC302.pdf
footprint 983-01_N (Thin QFP, 100-Leads, Body 14x14mm, Pitch 0.5mm, IPC Medium Density)
footprint 983-01_L (Thin QFP, 100-Leads, Body 14x14mm, Pitch 0.5mm, IPC High Density)
footprint 983-01_M (Thin QFP, 100-Leads, Body 14x14mm, Pitch 0.5mm, IPC Low Density)
3D model MC68LC302-983 (100-Pin Thin Quad Flat Pack 0.5 mm Pitch)
part A pins: 1 PB9 (io), 2 PB8 (io), 3 ~{WDOG}/PB7 (io), 4 ~{TOUT}2/PB6 (io), 5 TIN2/PB5 (io), 6 TIN1/PB3 (io), 8 ~{WEH}/A0 (~{UDS}/~{A}0) (io), 9 ~{WEL}/~{WE} (~{LDS}/~{DS}) (io), 11 ~{AS} (io), 12 ~{OE} (R/~{W}) (io), 15 ~{IPL}0/~{IRQ}1 (~{BR}) (io), 16 ~{IPL}1/~{IRQ}6 (~{BGACK}) (io), 17 ~{IPL}2/~{IRQ}7 (~{BG}) (in), 18 ~{EXTAL} (in), 19 ~{XTAL}, 20 ~{CLKO} (out), 21 ~{DISCPU} (in), 22 BUSW (in), 24 XFC, 26 ~{HALT} (io), 27 ~{RESET} (io), 28 ~{DTACK} (io), 29 ~{RTS}1/L1RQ/GCIDCL (out), 30 SPCLK/PA10 (io), 32 RCLK1/L1CLK (io), 33 TCLK1/L1SYS0/SDS1 (io), 34 TXD1/L1TXD (out), 35 MODCLK/PA12 (io), 37 SDS2/BRG2/PA7 (io), 38 ~{CD}2/PA6 (io), 39 ~{RTS}2/PA5 (io), 40 ~{CTS}2/PA4 (io), 41 TCLK2/PA3 (io), 43 RCLK2/PA2 (io), 44 TXD2/PA1 (io), 45 RXD2/PA0 (io), 46 SPTXD/PA9 (io), 47 SPRXD/PA8 (io), 48 RXD1/L1RXD (in), 49 ~{CTS}1/L1GR (in), 50 ~{CD}1/L1SY1 (in), 51 D0 (io), 52 D1 (io), 53 D2 (io), 54 D3 (io), 56 D4 (io), 57 D5 (io), 58 D6 (io), 59 D7 (io), 63 D8 (io), 64 D9 (io), 65 D10 (io), 66 D11 (io), 68 D12 (io), 69 D13 (io), 70 D14 (io), 71 D15 (io), 72 A19 (io), 73 A18 (io), 74 A17 (io), 75 A16 (io), 77 A15 (io), 78 A14 (io), 79 A13 (io), 80 A12 (io), 81 A11 (io), 82 A10 (io), 84 A9 (io), 85 A8 (io), 86 A7 (io), 87 A6 (io), 89 A5 (io), 90 A4 (io), 91 A3 (io), 92 A2 (io), 93 A1 (io), 94 ~{CS}0/~{IOUT}2 (out), 95 ~{CS}1 (out), 96 ~{CS}2 (out), 97 ~{CS}3 (out), 98 PB11 (io), 99 PB10 (io)
part B pins: 7 VCCP1 (power), 10 GNDP2 (power), 13 VCCQ1 (power), 14 GNDQ1 (power), 23 GNDSYN (power), 25 VCCSYN (power), 31 GNDS2 (power), 36 VCCS1 (power), 42 GNDS1 (power), 55 GNDD2 (power), 60 VCCD1 (power), 61 GNDQ2 (power), 62 VCCQ2 (power), 67 GNDD1 (power), 76 GNDA1 (power), 83 VCCA1 (power), 88 GNDA2 (power), 100 GNDP (power)

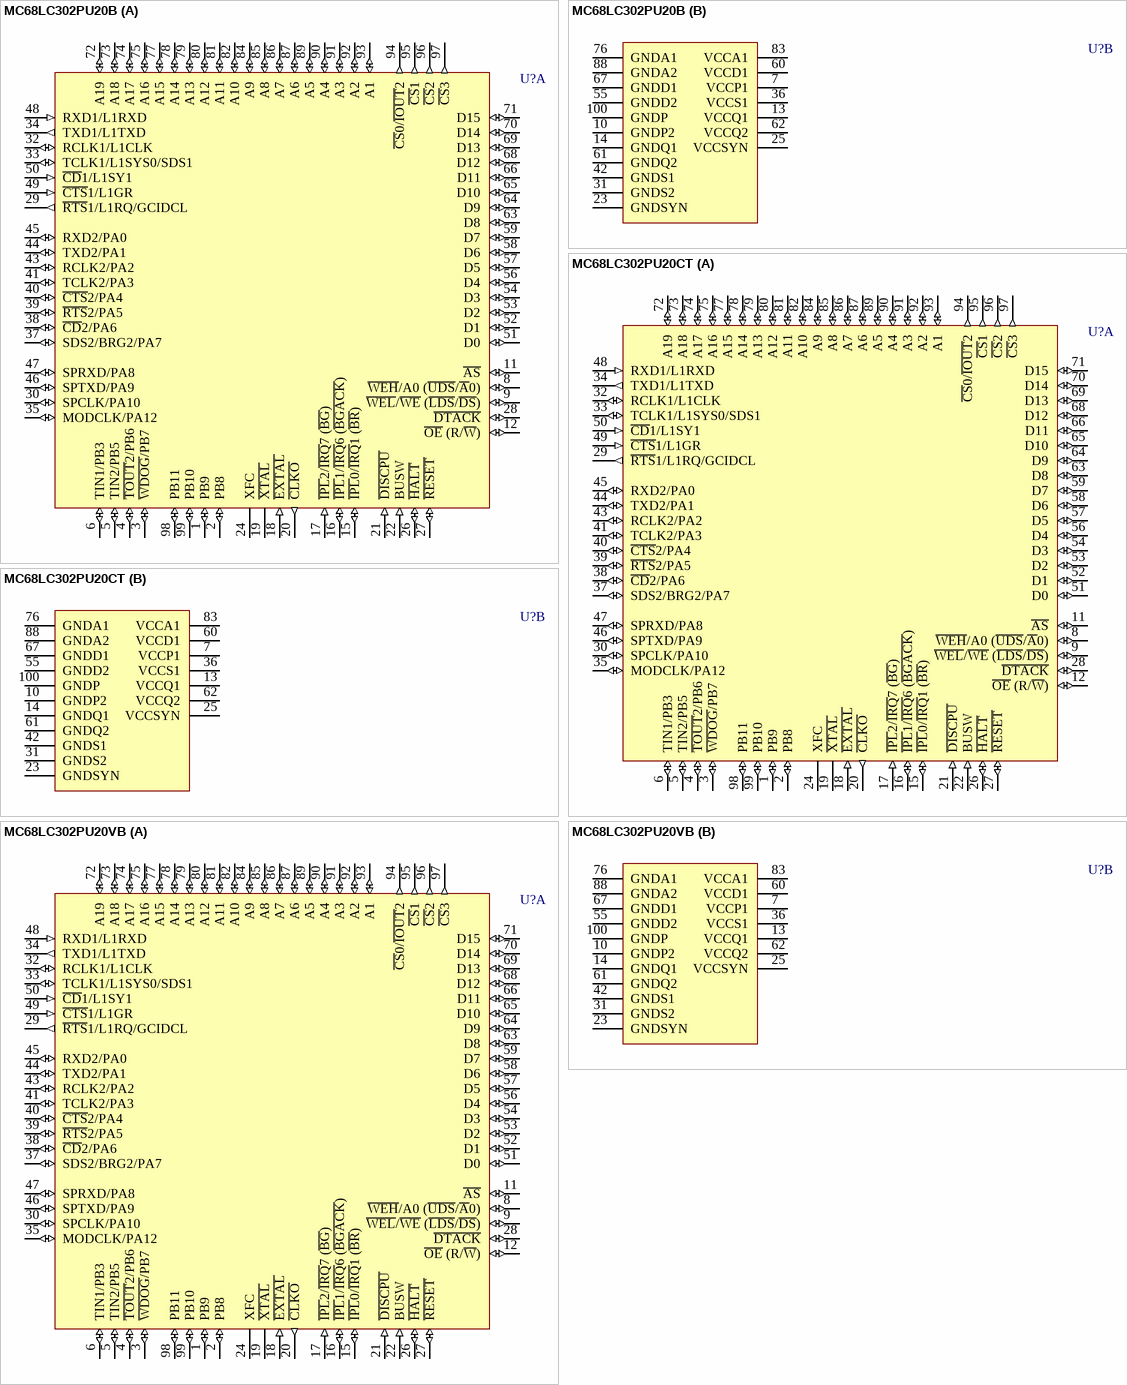
[diagram p36: symbols MC68LC302PU20B to MC68LC302PU20VB]

## MC68LC302PU20B
designator U?
Low Power Integrated Multiprotocol Processor; Published: 21-Mar-2003; LatestRevisionDate: 13-Apr-2006; LatestRevisionNote: IPC-7351 Footprint Added.; DatasheetVersion: Jan-1995; PackageVersion: 1999; PackageReference: 983-01; Publisher: Altium Limited; PackageDescription: 100-Pin Thin Quad Flat Pack 0.5 mm Pitch; ComponentLink1Description: Manufacturer Link; ComponentLink1URL: http://www.freescale.com/; ComponentLink2Description: Datasheet; ComponentLink2URL: http://www.freescale.com/files/netcomm/doc/data_sheet/MC68LC302.pdf
footprint 983-01_N (Thin QFP, 100-Leads, Body 14x14mm, Pitch 0.5mm, IPC Medium Density)
footprint 983-01_L (Thin QFP, 100-Leads, Body 14x14mm, Pitch 0.5mm, IPC High Density)
footprint 983-01_M (Thin QFP, 100-Leads, Body 14x14mm, Pitch 0.5mm, IPC Low Density)
3D model MC68LC302-983 (100-Pin Thin Quad Flat Pack 0.5 mm Pitch)
part A pins: 1 PB9 (io), 2 PB8 (io), 3 ~{WDOG}/PB7 (io), 4 ~{TOUT}2/PB6 (io), 5 TIN2/PB5 (io), 6 TIN1/PB3 (io), 8 ~{WEH}/A0 (~{UDS}/~{A}0) (io), 9 ~{WEL}/~{WE} (~{LDS}/~{DS}) (io), 11 ~{AS} (io), 12 ~{OE} (R/~{W}) (io), 15 ~{IPL}0/~{IRQ}1 (~{BR}) (io), 16 ~{IPL}1/~{IRQ}6 (~{BGACK}) (io), 17 ~{IPL}2/~{IRQ}7 (~{BG}) (in), 18 ~{EXTAL} (in), 19 ~{XTAL}, 20 ~{CLKO} (out), 21 ~{DISCPU} (in), 22 BUSW (in), 24 XFC, 26 ~{HALT} (io), 27 ~{RESET} (io), 28 ~{DTACK} (io), 29 ~{RTS}1/L1RQ/GCIDCL (out), 30 SPCLK/PA10 (io), 32 RCLK1/L1CLK (io), 33 TCLK1/L1SYS0/SDS1 (io), 34 TXD1/L1TXD (out), 35 MODCLK/PA12 (io), 37 SDS2/BRG2/PA7 (io), 38 ~{CD}2/PA6 (io), 39 ~{RTS}2/PA5 (io), 40 ~{CTS}2/PA4 (io), 41 TCLK2/PA3 (io), 43 RCLK2/PA2 (io), 44 TXD2/PA1 (io), 45 RXD2/PA0 (io), 46 SPTXD/PA9 (io), 47 SPRXD/PA8 (io), 48 RXD1/L1RXD (in), 49 ~{CTS}1/L1GR (in), 50 ~{CD}1/L1SY1 (in), 51 D0 (io), 52 D1 (io), 53 D2 (io), 54 D3 (io), 56 D4 (io), 57 D5 (io), 58 D6 (io), 59 D7 (io), 63 D8 (io), 64 D9 (io), 65 D10 (io), 66 D11 (io), 68 D12 (io), 69 D13 (io), 70 D14 (io), 71 D15 (io), 72 A19 (io), 73 A18 (io), 74 A17 (io), 75 A16 (io), 77 A15 (io), 78 A14 (io), 79 A13 (io), 80 A12 (io), 81 A11 (io), 82 A10 (io), 84 A9 (io), 85 A8 (io), 86 A7 (io), 87 A6 (io), 89 A5 (io), 90 A4 (io), 91 A3 (io), 92 A2 (io), 93 A1 (io), 94 ~{CS}0/~{IOUT}2 (out), 95 ~{CS}1 (out), 96 ~{CS}2 (out), 97 ~{CS}3 (out), 98 PB11 (io), 99 PB10 (io)
part B pins: 7 VCCP1 (power), 10 GNDP2 (power), 13 VCCQ1 (power), 14 GNDQ1 (power), 23 GNDSYN (power), 25 VCCSYN (power), 31 GNDS2 (power), 36 VCCS1 (power), 42 GNDS1 (power), 55 GNDD2 (power), 60 VCCD1 (power), 61 GNDQ2 (power), 62 VCCQ2 (power), 67 GNDD1 (power), 76 GNDA1 (power), 83 VCCA1 (power), 88 GNDA2 (power), 100 GNDP (power)

## MC68LC302PU20CT
designator U?
Low Power Integrated Multiprotocol Processor; Published: 21-Mar-2003; LatestRevisionDate: 13-Apr-2006; LatestRevisionNote: IPC-7351 Footprint Added.; DatasheetVersion: Jan-1995; PackageVersion: 1999; PackageReference: 983-01; Publisher: Altium Limited; PackageDescription: 100-Pin Thin Quad Flat Pack 0.5 mm Pitch; ComponentLink1Description: Manufacturer Link; ComponentLink1URL: http://www.freescale.com/; ComponentLink2Description: Datasheet; ComponentLink2URL: http://www.freescale.com/files/netcomm/doc/data_sheet/MC68LC302.pdf
footprint 983-01_N (Thin QFP, 100-Leads, Body 14x14mm, Pitch 0.5mm, IPC Medium Density)
footprint 983-01_L (Thin QFP, 100-Leads, Body 14x14mm, Pitch 0.5mm, IPC High Density)
footprint 983-01_M (Thin QFP, 100-Leads, Body 14x14mm, Pitch 0.5mm, IPC Low Density)
3D model MC68LC302-983 (100-Pin Thin Quad Flat Pack 0.5 mm Pitch)
part A pins: 1 PB9 (io), 2 PB8 (io), 3 ~{WDOG}/PB7 (io), 4 ~{TOUT}2/PB6 (io), 5 TIN2/PB5 (io), 6 TIN1/PB3 (io), 8 ~{WEH}/A0 (~{UDS}/~{A}0) (io), 9 ~{WEL}/~{WE} (~{LDS}/~{DS}) (io), 11 ~{AS} (io), 12 ~{OE} (R/~{W}) (io), 15 ~{IPL}0/~{IRQ}1 (~{BR}) (io), 16 ~{IPL}1/~{IRQ}6 (~{BGACK}) (io), 17 ~{IPL}2/~{IRQ}7 (~{BG}) (in), 18 ~{EXTAL} (in), 19 ~{XTAL}, 20 ~{CLKO} (out), 21 ~{DISCPU} (in), 22 BUSW (in), 24 XFC, 26 ~{HALT} (io), 27 ~{RESET} (io), 28 ~{DTACK} (io), 29 ~{RTS}1/L1RQ/GCIDCL (out), 30 SPCLK/PA10 (io), 32 RCLK1/L1CLK (io), 33 TCLK1/L1SYS0/SDS1 (io), 34 TXD1/L1TXD (out), 35 MODCLK/PA12 (io), 37 SDS2/BRG2/PA7 (io), 38 ~{CD}2/PA6 (io), 39 ~{RTS}2/PA5 (io), 40 ~{CTS}2/PA4 (io), 41 TCLK2/PA3 (io), 43 RCLK2/PA2 (io), 44 TXD2/PA1 (io), 45 RXD2/PA0 (io), 46 SPTXD/PA9 (io), 47 SPRXD/PA8 (io), 48 RXD1/L1RXD (in), 49 ~{CTS}1/L1GR (in), 50 ~{CD}1/L1SY1 (in), 51 D0 (io), 52 D1 (io), 53 D2 (io), 54 D3 (io), 56 D4 (io), 57 D5 (io), 58 D6 (io), 59 D7 (io), 63 D8 (io), 64 D9 (io), 65 D10 (io), 66 D11 (io), 68 D12 (io), 69 D13 (io), 70 D14 (io), 71 D15 (io), 72 A19 (io), 73 A18 (io), 74 A17 (io), 75 A16 (io), 77 A15 (io), 78 A14 (io), 79 A13 (io), 80 A12 (io), 81 A11 (io), 82 A10 (io), 84 A9 (io), 85 A8 (io), 86 A7 (io), 87 A6 (io), 89 A5 (io), 90 A4 (io), 91 A3 (io), 92 A2 (io), 93 A1 (io), 94 ~{CS}0/~{IOUT}2 (out), 95 ~{CS}1 (out), 96 ~{CS}2 (out), 97 ~{CS}3 (out), 98 PB11 (io), 99 PB10 (io)
part B pins: 7 VCCP1 (power), 10 GNDP2 (power), 13 VCCQ1 (power), 14 GNDQ1 (power), 23 GNDSYN (power), 25 VCCSYN (power), 31 GNDS2 (power), 36 VCCS1 (power), 42 GNDS1 (power), 55 GNDD2 (power), 60 VCCD1 (power), 61 GNDQ2 (power), 62 VCCQ2 (power), 67 GNDD1 (power), 76 GNDA1 (power), 83 VCCA1 (power), 88 GNDA2 (power), 100 GNDP (power)

## MC68LC302PU20VB
designator U?
Low Power Integrated Multiprotocol Processor; Published: 21-Mar-2003; LatestRevisionDate: 13-Apr-2006; LatestRevisionNote: IPC-7351 Footprint Added.; DatasheetVersion: Jan-1995; PackageVersion: 1999; PackageReference: 983-01; Publisher: Altium Limited; PackageDescription: 100-Pin Thin Quad Flat Pack 0.5 mm Pitch; ComponentLink1Description: Manufacturer Link; ComponentLink1URL: http://www.freescale.com/; ComponentLink2Description: Datasheet; ComponentLink2URL: http://www.freescale.com/files/netcomm/doc/data_sheet/MC68LC302.pdf
footprint 983-01_N (Thin QFP, 100-Leads, Body 14x14mm, Pitch 0.5mm, IPC Medium Density)
footprint 983-01_L (Thin QFP, 100-Leads, Body 14x14mm, Pitch 0.5mm, IPC High Density)
footprint 983-01_M (Thin QFP, 100-Leads, Body 14x14mm, Pitch 0.5mm, IPC Low Density)
3D model MC68LC302-983 (100-Pin Thin Quad Flat Pack 0.5 mm Pitch)
part A pins: 1 PB9 (io), 2 PB8 (io), 3 ~{WDOG}/PB7 (io), 4 ~{TOUT}2/PB6 (io), 5 TIN2/PB5 (io), 6 TIN1/PB3 (io), 8 ~{WEH}/A0 (~{UDS}/~{A}0) (io), 9 ~{WEL}/~{WE} (~{LDS}/~{DS}) (io), 11 ~{AS} (io), 12 ~{OE} (R/~{W}) (io), 15 ~{IPL}0/~{IRQ}1 (~{BR}) (io), 16 ~{IPL}1/~{IRQ}6 (~{BGACK}) (io), 17 ~{IPL}2/~{IRQ}7 (~{BG}) (in), 18 ~{EXTAL} (in), 19 ~{XTAL}, 20 ~{CLKO} (out), 21 ~{DISCPU} (in), 22 BUSW (in), 24 XFC, 26 ~{HALT} (io), 27 ~{RESET} (io), 28 ~{DTACK} (io), 29 ~{RTS}1/L1RQ/GCIDCL (out), 30 SPCLK/PA10 (io), 32 RCLK1/L1CLK (io), 33 TCLK1/L1SYS0/SDS1 (io), 34 TXD1/L1TXD (out), 35 MODCLK/PA12 (io), 37 SDS2/BRG2/PA7 (io), 38 ~{CD}2/PA6 (io), 39 ~{RTS}2/PA5 (io), 40 ~{CTS}2/PA4 (io), 41 TCLK2/PA3 (io), 43 RCLK2/PA2 (io), 44 TXD2/PA1 (io), 45 RXD2/PA0 (io), 46 SPTXD/PA9 (io), 47 SPRXD/PA8 (io), 48 RXD1/L1RXD (in), 49 ~{CTS}1/L1GR (in), 50 ~{CD}1/L1SY1 (in), 51 D0 (io), 52 D1 (io), 53 D2 (io), 54 D3 (io), 56 D4 (io), 57 D5 (io), 58 D6 (io), 59 D7 (io), 63 D8 (io), 64 D9 (io), 65 D10 (io), 66 D11 (io), 68 D12 (io), 69 D13 (io), 70 D14 (io), 71 D15 (io), 72 A19 (io), 73 A18 (io), 74 A17 (io), 75 A16 (io), 77 A15 (io), 78 A14 (io), 79 A13 (io), 80 A12 (io), 81 A11 (io), 82 A10 (io), 84 A9 (io), 85 A8 (io), 86 A7 (io), 87 A6 (io), 89 A5 (io), 90 A4 (io), 91 A3 (io), 92 A2 (io), 93 A1 (io), 94 ~{CS}0/~{IOUT}2 (out), 95 ~{CS}1 (out), 96 ~{CS}2 (out), 97 ~{CS}3 (out), 98 PB11 (io), 99 PB10 (io)
part B pins: 7 VCCP1 (power), 10 GNDP2 (power), 13 VCCQ1 (power), 14 GNDQ1 (power), 23 GNDSYN (power), 25 VCCSYN (power), 31 GNDS2 (power), 36 VCCS1 (power), 42 GNDS1 (power), 55 GNDD2 (power), 60 VCCD1 (power), 61 GNDQ2 (power), 62 VCCQ2 (power), 67 GNDD1 (power), 76 GNDA1 (power), 83 VCCA1 (power), 88 GNDA2 (power), 100 GNDP (power)

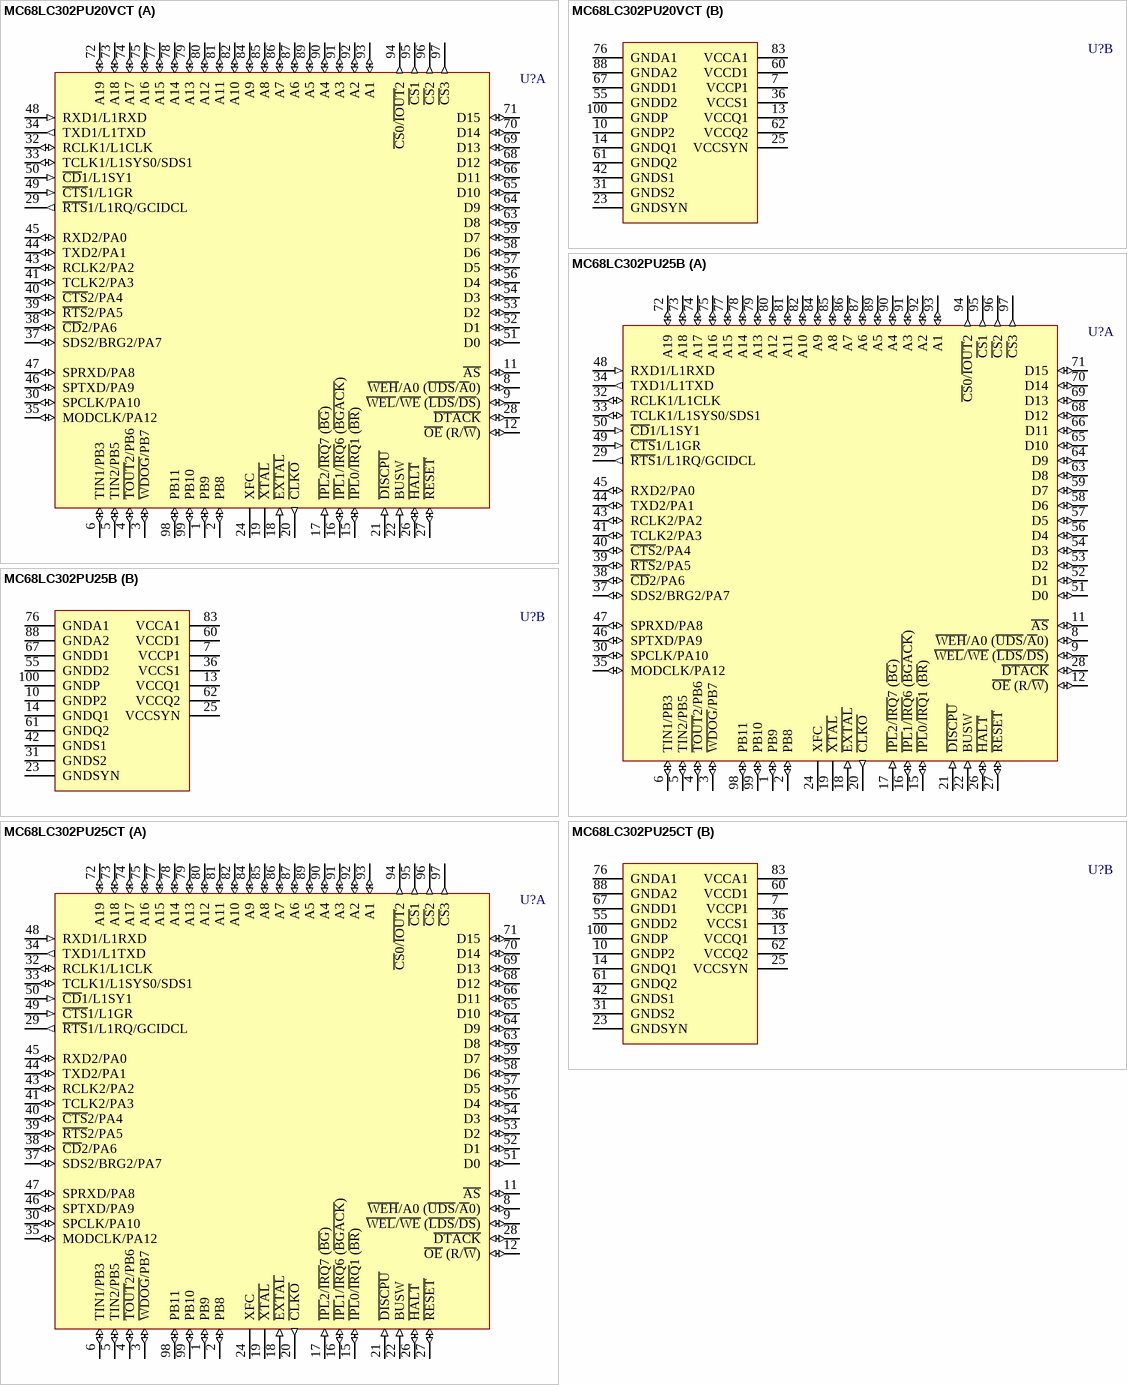
[diagram p37: symbols MC68LC302PU20VCT to MC68LC302PU25CT]

## MC68LC302PU20VCT
designator U?
Low Power Integrated Multiprotocol Processor; Published: 21-Mar-2003; LatestRevisionDate: 13-Apr-2006; LatestRevisionNote: IPC-7351 Footprint Added.; DatasheetVersion: Jan-1995; PackageVersion: 1999; PackageReference: 983-01; Publisher: Altium Limited; PackageDescription: 100-Pin Thin Quad Flat Pack 0.5 mm Pitch; ComponentLink1Description: Manufacturer Link; ComponentLink1URL: http://www.freescale.com/; ComponentLink2Description: Datasheet; ComponentLink2URL: http://www.freescale.com/files/netcomm/doc/data_sheet/MC68LC302.pdf
footprint 983-01_N (Thin QFP, 100-Leads, Body 14x14mm, Pitch 0.5mm, IPC Medium Density)
footprint 983-01_L (Thin QFP, 100-Leads, Body 14x14mm, Pitch 0.5mm, IPC High Density)
footprint 983-01_M (Thin QFP, 100-Leads, Body 14x14mm, Pitch 0.5mm, IPC Low Density)
3D model MC68LC302-983 (100-Pin Thin Quad Flat Pack 0.5 mm Pitch)
part A pins: 1 PB9 (io), 2 PB8 (io), 3 ~{WDOG}/PB7 (io), 4 ~{TOUT}2/PB6 (io), 5 TIN2/PB5 (io), 6 TIN1/PB3 (io), 8 ~{WEH}/A0 (~{UDS}/~{A}0) (io), 9 ~{WEL}/~{WE} (~{LDS}/~{DS}) (io), 11 ~{AS} (io), 12 ~{OE} (R/~{W}) (io), 15 ~{IPL}0/~{IRQ}1 (~{BR}) (io), 16 ~{IPL}1/~{IRQ}6 (~{BGACK}) (io), 17 ~{IPL}2/~{IRQ}7 (~{BG}) (in), 18 ~{EXTAL} (in), 19 ~{XTAL}, 20 ~{CLKO} (out), 21 ~{DISCPU} (in), 22 BUSW (in), 24 XFC, 26 ~{HALT} (io), 27 ~{RESET} (io), 28 ~{DTACK} (io), 29 ~{RTS}1/L1RQ/GCIDCL (out), 30 SPCLK/PA10 (io), 32 RCLK1/L1CLK (io), 33 TCLK1/L1SYS0/SDS1 (io), 34 TXD1/L1TXD (out), 35 MODCLK/PA12 (io), 37 SDS2/BRG2/PA7 (io), 38 ~{CD}2/PA6 (io), 39 ~{RTS}2/PA5 (io), 40 ~{CTS}2/PA4 (io), 41 TCLK2/PA3 (io), 43 RCLK2/PA2 (io), 44 TXD2/PA1 (io), 45 RXD2/PA0 (io), 46 SPTXD/PA9 (io), 47 SPRXD/PA8 (io), 48 RXD1/L1RXD (in), 49 ~{CTS}1/L1GR (in), 50 ~{CD}1/L1SY1 (in), 51 D0 (io), 52 D1 (io), 53 D2 (io), 54 D3 (io), 56 D4 (io), 57 D5 (io), 58 D6 (io), 59 D7 (io), 63 D8 (io), 64 D9 (io), 65 D10 (io), 66 D11 (io), 68 D12 (io), 69 D13 (io), 70 D14 (io), 71 D15 (io), 72 A19 (io), 73 A18 (io), 74 A17 (io), 75 A16 (io), 77 A15 (io), 78 A14 (io), 79 A13 (io), 80 A12 (io), 81 A11 (io), 82 A10 (io), 84 A9 (io), 85 A8 (io), 86 A7 (io), 87 A6 (io), 89 A5 (io), 90 A4 (io), 91 A3 (io), 92 A2 (io), 93 A1 (io), 94 ~{CS}0/~{IOUT}2 (out), 95 ~{CS}1 (out), 96 ~{CS}2 (out), 97 ~{CS}3 (out), 98 PB11 (io), 99 PB10 (io)
part B pins: 7 VCCP1 (power), 10 GNDP2 (power), 13 VCCQ1 (power), 14 GNDQ1 (power), 23 GNDSYN (power), 25 VCCSYN (power), 31 GNDS2 (power), 36 VCCS1 (power), 42 GNDS1 (power), 55 GNDD2 (power), 60 VCCD1 (power), 61 GNDQ2 (power), 62 VCCQ2 (power), 67 GNDD1 (power), 76 GNDA1 (power), 83 VCCA1 (power), 88 GNDA2 (power), 100 GNDP (power)

## MC68LC302PU25B
designator U?
Low Power Integrated Multiprotocol Processor; Published: 21-Mar-2003; LatestRevisionDate: 13-Apr-2006; LatestRevisionNote: IPC-7351 Footprint Added.; DatasheetVersion: Jan-1995; PackageVersion: 1999; PackageReference: 983-01; Publisher: Altium Limited; PackageDescription: 100-Pin Thin Quad Flat Pack 0.5 mm Pitch; ComponentLink1Description: Manufacturer Link; ComponentLink1URL: http://www.freescale.com/; ComponentLink2Description: Datasheet; ComponentLink2URL: http://www.freescale.com/files/netcomm/doc/data_sheet/MC68LC302.pdf
footprint 983-01_N (Thin QFP, 100-Leads, Body 14x14mm, Pitch 0.5mm, IPC Medium Density)
footprint 983-01_L (Thin QFP, 100-Leads, Body 14x14mm, Pitch 0.5mm, IPC High Density)
footprint 983-01_M (Thin QFP, 100-Leads, Body 14x14mm, Pitch 0.5mm, IPC Low Density)
3D model MC68LC302-983 (100-Pin Thin Quad Flat Pack 0.5 mm Pitch)
part A pins: 1 PB9 (io), 2 PB8 (io), 3 ~{WDOG}/PB7 (io), 4 ~{TOUT}2/PB6 (io), 5 TIN2/PB5 (io), 6 TIN1/PB3 (io), 8 ~{WEH}/A0 (~{UDS}/~{A}0) (io), 9 ~{WEL}/~{WE} (~{LDS}/~{DS}) (io), 11 ~{AS} (io), 12 ~{OE} (R/~{W}) (io), 15 ~{IPL}0/~{IRQ}1 (~{BR}) (io), 16 ~{IPL}1/~{IRQ}6 (~{BGACK}) (io), 17 ~{IPL}2/~{IRQ}7 (~{BG}) (in), 18 ~{EXTAL} (in), 19 ~{XTAL}, 20 ~{CLKO} (out), 21 ~{DISCPU} (in), 22 BUSW (in), 24 XFC, 26 ~{HALT} (io), 27 ~{RESET} (io), 28 ~{DTACK} (io), 29 ~{RTS}1/L1RQ/GCIDCL (out), 30 SPCLK/PA10 (io), 32 RCLK1/L1CLK (io), 33 TCLK1/L1SYS0/SDS1 (io), 34 TXD1/L1TXD (out), 35 MODCLK/PA12 (io), 37 SDS2/BRG2/PA7 (io), 38 ~{CD}2/PA6 (io), 39 ~{RTS}2/PA5 (io), 40 ~{CTS}2/PA4 (io), 41 TCLK2/PA3 (io), 43 RCLK2/PA2 (io), 44 TXD2/PA1 (io), 45 RXD2/PA0 (io), 46 SPTXD/PA9 (io), 47 SPRXD/PA8 (io), 48 RXD1/L1RXD (in), 49 ~{CTS}1/L1GR (in), 50 ~{CD}1/L1SY1 (in), 51 D0 (io), 52 D1 (io), 53 D2 (io), 54 D3 (io), 56 D4 (io), 57 D5 (io), 58 D6 (io), 59 D7 (io), 63 D8 (io), 64 D9 (io), 65 D10 (io), 66 D11 (io), 68 D12 (io), 69 D13 (io), 70 D14 (io), 71 D15 (io), 72 A19 (io), 73 A18 (io), 74 A17 (io), 75 A16 (io), 77 A15 (io), 78 A14 (io), 79 A13 (io), 80 A12 (io), 81 A11 (io), 82 A10 (io), 84 A9 (io), 85 A8 (io), 86 A7 (io), 87 A6 (io), 89 A5 (io), 90 A4 (io), 91 A3 (io), 92 A2 (io), 93 A1 (io), 94 ~{CS}0/~{IOUT}2 (out), 95 ~{CS}1 (out), 96 ~{CS}2 (out), 97 ~{CS}3 (out), 98 PB11 (io), 99 PB10 (io)
part B pins: 7 VCCP1 (power), 10 GNDP2 (power), 13 VCCQ1 (power), 14 GNDQ1 (power), 23 GNDSYN (power), 25 VCCSYN (power), 31 GNDS2 (power), 36 VCCS1 (power), 42 GNDS1 (power), 55 GNDD2 (power), 60 VCCD1 (power), 61 GNDQ2 (power), 62 VCCQ2 (power), 67 GNDD1 (power), 76 GNDA1 (power), 83 VCCA1 (power), 88 GNDA2 (power), 100 GNDP (power)

## MC68LC302PU25CT
designator U?
Low Cost Integrated Multiprotocol Processor; Published: 21-Mar-2003; LatestRevisionDate: 13-Apr-2006; LatestRevisionNote: IPC-7351 Footprint Added.; DatasheetVersion: Jan-1995; PackageVersion: 1999; PackageReference: 983-01; Publisher: Altium Limited; PackageDescription: 100-Pin Thin Quad Flat Pack 0.5 mm Pitch; ComponentLink1Description: Manufacturer Link; ComponentLink1URL: http://www.freescale.com/; ComponentLink2Description: Datasheet; ComponentLink2URL: http://www.freescale.com/files/netcomm/doc/data_sheet/MC68LC302.pdf
footprint 983-01_N (Thin QFP, 100-Leads, Body 14x14mm, Pitch 0.5mm, IPC Medium Density)
footprint 983-01_L (Thin QFP, 100-Leads, Body 14x14mm, Pitch 0.5mm, IPC High Density)
footprint 983-01_M (Thin QFP, 100-Leads, Body 14x14mm, Pitch 0.5mm, IPC Low Density)
3D model MC68LC302-983 (100-Pin Thin Quad Flat Pack 0.5 mm Pitch)
part A pins: 1 PB9 (io), 2 PB8 (io), 3 ~{WDOG}/PB7 (io), 4 ~{TOUT}2/PB6 (io), 5 TIN2/PB5 (io), 6 TIN1/PB3 (io), 8 ~{WEH}/A0 (~{UDS}/~{A}0) (io), 9 ~{WEL}/~{WE} (~{LDS}/~{DS}) (io), 11 ~{AS} (io), 12 ~{OE} (R/~{W}) (io), 15 ~{IPL}0/~{IRQ}1 (~{BR}) (io), 16 ~{IPL}1/~{IRQ}6 (~{BGACK}) (io), 17 ~{IPL}2/~{IRQ}7 (~{BG}) (in), 18 ~{EXTAL} (in), 19 ~{XTAL}, 20 ~{CLKO} (out), 21 ~{DISCPU} (in), 22 BUSW (in), 24 XFC, 26 ~{HALT} (io), 27 ~{RESET} (io), 28 ~{DTACK} (io), 29 ~{RTS}1/L1RQ/GCIDCL (out), 30 SPCLK/PA10 (io), 32 RCLK1/L1CLK (io), 33 TCLK1/L1SYS0/SDS1 (io), 34 TXD1/L1TXD (out), 35 MODCLK/PA12 (io), 37 SDS2/BRG2/PA7 (io), 38 ~{CD}2/PA6 (io), 39 ~{RTS}2/PA5 (io), 40 ~{CTS}2/PA4 (io), 41 TCLK2/PA3 (io), 43 RCLK2/PA2 (io), 44 TXD2/PA1 (io), 45 RXD2/PA0 (io), 46 SPTXD/PA9 (io), 47 SPRXD/PA8 (io), 48 RXD1/L1RXD (in), 49 ~{CTS}1/L1GR (in), 50 ~{CD}1/L1SY1 (in), 51 D0 (io), 52 D1 (io), 53 D2 (io), 54 D3 (io), 56 D4 (io), 57 D5 (io), 58 D6 (io), 59 D7 (io), 63 D8 (io), 64 D9 (io), 65 D10 (io), 66 D11 (io), 68 D12 (io), 69 D13 (io), 70 D14 (io), 71 D15 (io), 72 A19 (io), 73 A18 (io), 74 A17 (io), 75 A16 (io), 77 A15 (io), 78 A14 (io), 79 A13 (io), 80 A12 (io), 81 A11 (io), 82 A10 (io), 84 A9 (io), 85 A8 (io), 86 A7 (io), 87 A6 (io), 89 A5 (io), 90 A4 (io), 91 A3 (io), 92 A2 (io), 93 A1 (io), 94 ~{CS}0/~{IOUT}2 (out), 95 ~{CS}1 (out), 96 ~{CS}2 (out), 97 ~{CS}3 (out), 98 PB11 (io), 99 PB10 (io)
part B pins: 7 VCCP1 (power), 10 GNDP2 (power), 13 VCCQ1 (power), 14 GNDQ1 (power), 23 GNDSYN (power), 25 VCCSYN (power), 31 GNDS2 (power), 36 VCCS1 (power), 42 GNDS1 (power), 55 GNDD2 (power), 60 VCCD1 (power), 61 GNDQ2 (power), 62 VCCQ2 (power), 67 GNDD1 (power), 76 GNDA1 (power), 83 VCCA1 (power), 88 GNDA2 (power), 100 GNDP (power)

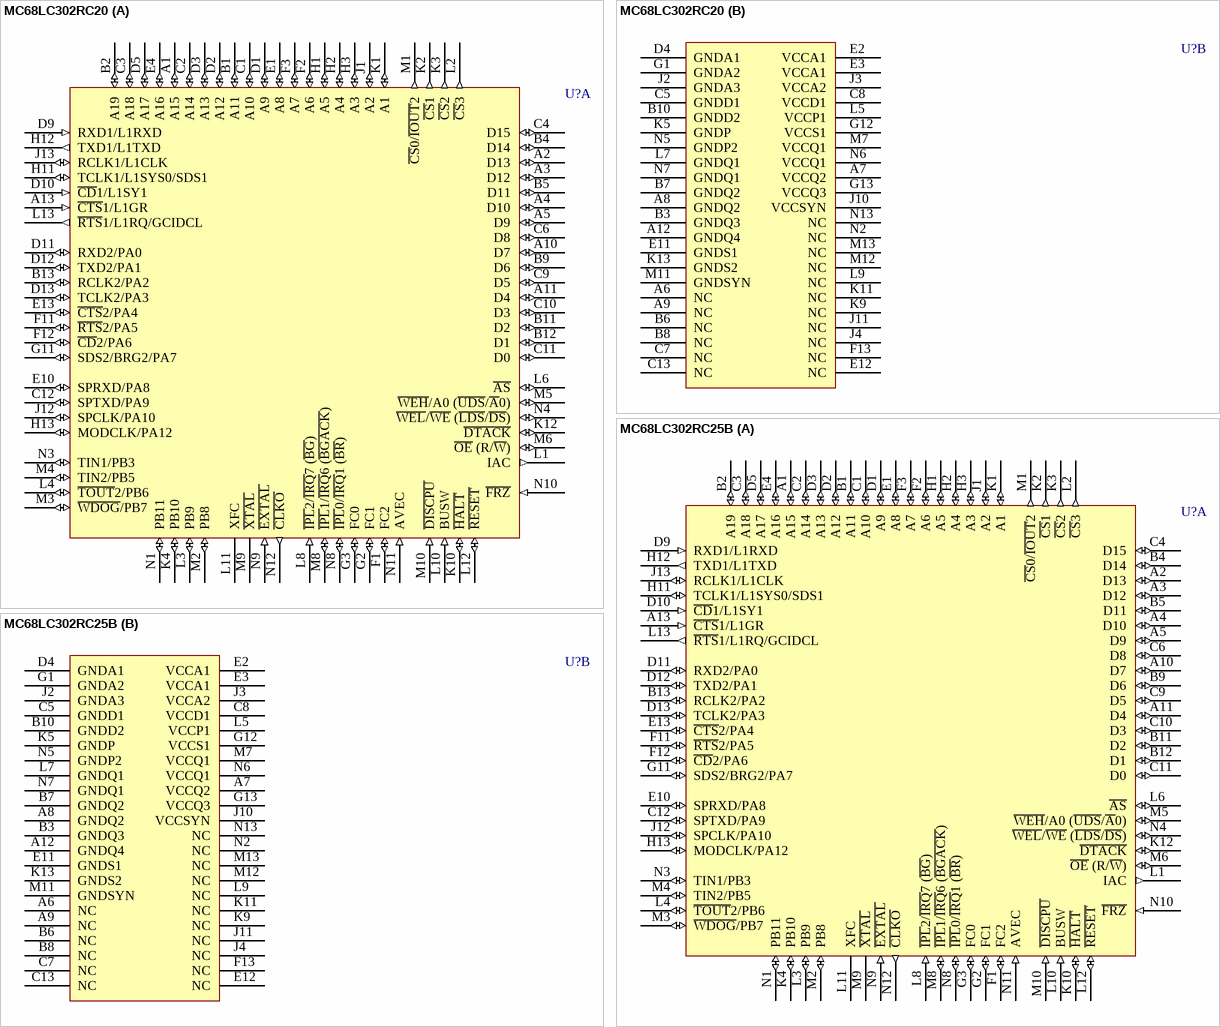
[diagram p38: symbols MC68LC302RC20 to MC68LC302RC25B]

## MC68LC302RC20
designator U?
Low Cost Integrated Multiprotocol Processor; Published: 21-Mar-2003; LatestRevisionDate: 06-Jun-2005; LatestRevisionNote: Stylized 3D Model Added.; DatasheetVersion: Jan-1995; PackageVersion: 1995; PackageReference: 789B-01; Publisher: Altium Limited; PackageDescription: 132-Pin Ceramic Pin Grid Array 2.54 mm Pitch; ComponentLink1Description: Manufacturer Link; ComponentLink1URL: http://www.freescale.com/; ComponentLink2Description: Datasheet; ComponentLink2URL: http://www.freescale.com/files/netcomm/doc/data_sheet/MC68LC302.pdf
footprint 789B-01 (PGA, 132-Leads, Body 34.5x34.5mm, Pitch 2.54mm)
3D model MC68LC302-789B-01 (132-Pin Ceramic Pin Grid Array 2.54 mm Pitch)
part A pins: A1 A15 (io), A2 D13 (io), A3 D12 (io), A4 D10 (io), A5 D9 (io), A10 D7 (io), A11 D4 (io), A13 ~{CTS}1/L1GR (in), B1 A11 (io), B2 A19 (io), B4 D14 (io), B5 D11 (io), B9 D6 (io), B11 D2 (io), B12 D1 (io), B13 RCLK2/PA2 (io), C1 A10 (io), C2 A14 (io), C3 A18 (io), C4 D15 (io), C6 D8 (io), C9 D5 (io), C10 D3 (io), C11 D0 (io), C12 SPTXD/PA9 (io), D1 A9 (io), D2 A12 (io), D3 A13 (io), D5 A17 (io), D9 RXD1/L1RXD (in), D10 ~{CD}1/L1SY1 (in), D11 RXD2/PA0 (io), D12 TXD2/PA1 (io), D13 TCLK2/PA3 (io), E1 A8 (io), E4 A16 (io), E10 SPRXD/PA8 (io), E13 ~{CTS}2/PA4 (io), F1 FC2 (io), F2 A6 (io), F3 A7 (io), F11 ~{RTS}2/PA5 (io), F12 ~{CD}2/PA6 (io), G2 FC1 (io), G3 FC0 (io), G11 SDS2/BRG2/PA7 (io), H1 A5 (io), H2 A4 (io), H3 A3 (io), H11 TCLK1/L1SYS0/SDS1 (io), H12 TXD1/L1TXD (out), H13 MODCLK/PA12 (io), J1 A2 (io), J12 SPCLK/PA10 (io), J13 RCLK1/L1CLK (io), K1 A1 (io), K2 ~{CS}1 (out), K3 ~{CS}2 (out), K4 PB10 (io), K10 ~{HALT} (io), K12 ~{DTACK} (io), L1 IAC (out), L2 ~{CS}3 (out), L3 PB9 (io), L4 ~{TOUT}2/PB6 (io), L6 ~{AS} (io), L8 ~{IPL}2/~{IRQ}7 (~{BG}) (in), L10 BUSW (in), L11 XFC, L12 ~{RESET} (io), L13 ~{RTS}1/L1RQ/GCIDCL (out), M1 ~{CS}0/~{IOUT}2 (out), M2 PB8 (io), M3 ~{WDOG}/PB7 (io), M4 TIN2/PB5 (io), M5 ~{WEH}/A0 (~{UDS}/~{A}0) (io), M6 ~{OE} (R/~{W}) (io), M8 ~{IPL}1/~{IRQ}6 (~{BGACK}) (io), M9 ~{XTAL}, M10 ~{DISCPU} (in), N1 PB11 (io), N3 TIN1/PB3 (io), N4 ~{WEL}/~{WE} (~{LDS}/~{DS}) (io), N8 ~{IPL}0/~{IRQ}1 (~{BR}) (io), N9 ~{EXTAL} (in), N10 ~{FRZ} (in), N11 AVEC (in), N12 ~{CLKO} (out)
part B pins: A6 NC, A7 VCCQ2 (power), A8 GNDQ2 (power), A9 NC, A12 GNDQ4 (power), B3 GNDQ3 (power), B6 NC, B7 GNDQ2 (power), B8 NC, B10 GNDD2 (power), C5 GNDD1 (power), C7 NC, C8 VCCD1 (power), C13 NC, D4 GNDA1 (power), E2 VCCA1 (power), E3 VCCA1 (power), E11 GNDS1 (power), E12 NC, F13 NC, G1 GNDA2 (power), G12 VCCS1 (power), G13 VCCQ3 (power), J2 GNDA3 (power), J3 VCCA2 (power), J4 NC, J10 VCCSYN (power), J11 NC, K5 GNDP (power), K9 NC, K11 NC, K13 GNDS2 (power), L5 VCCP1 (power), L7 GNDQ1 (power), L9 NC, M7 VCCQ1 (power), M11 GNDSYN (power), M12 NC, M13 NC, N2 NC, N5 GNDP2 (power), N6 VCCQ1 (power), N7 GNDQ1 (power), N13 NC

## MC68LC302RC25B
designator U?
Low Power Integrated Multiprotocol Processor; Published: 21-Mar-2003; LatestRevisionDate: 06-Jun-2005; LatestRevisionNote: Stylized 3D Model Added.; DatasheetVersion: Jan-1995; PackageVersion: 1995; PackageReference: 789B-01; Publisher: Altium Limited; PackageDescription: 132-Pin Ceramic Pin Grid Array 2.54 mm Pitch; ComponentLink1Description: Manufacturer Link; ComponentLink1URL: http://www.freescale.com/; ComponentLink2Description: Datasheet; ComponentLink2URL: http://www.freescale.com/files/netcomm/doc/data_sheet/MC68LC302.pdf
footprint 789B-01 (PGA, 132-Leads, Body 34.5x34.5mm, Pitch 2.54mm)
3D model MC68LC302-789B-01 (132-Pin Ceramic Pin Grid Array 2.54 mm Pitch)
part A pins: A1 A15 (io), A2 D13 (io), A3 D12 (io), A4 D10 (io), A5 D9 (io), A10 D7 (io), A11 D4 (io), A13 ~{CTS}1/L1GR (in), B1 A11 (io), B2 A19 (io), B4 D14 (io), B5 D11 (io), B9 D6 (io), B11 D2 (io), B12 D1 (io), B13 RCLK2/PA2 (io), C1 A10 (io), C2 A14 (io), C3 A18 (io), C4 D15 (io), C6 D8 (io), C9 D5 (io), C10 D3 (io), C11 D0 (io), C12 SPTXD/PA9 (io), D1 A9 (io), D2 A12 (io), D3 A13 (io), D5 A17 (io), D9 RXD1/L1RXD (in), D10 ~{CD}1/L1SY1 (in), D11 RXD2/PA0 (io), D12 TXD2/PA1 (io), D13 TCLK2/PA3 (io), E1 A8 (io), E4 A16 (io), E10 SPRXD/PA8 (io), E13 ~{CTS}2/PA4 (io), F1 FC2 (io), F2 A6 (io), F3 A7 (io), F11 ~{RTS}2/PA5 (io), F12 ~{CD}2/PA6 (io), G2 FC1 (io), G3 FC0 (io), G11 SDS2/BRG2/PA7 (io), H1 A5 (io), H2 A4 (io), H3 A3 (io), H11 TCLK1/L1SYS0/SDS1 (io), H12 TXD1/L1TXD (out), H13 MODCLK/PA12 (io), J1 A2 (io), J12 SPCLK/PA10 (io), J13 RCLK1/L1CLK (io), K1 A1 (io), K2 ~{CS}1 (out), K3 ~{CS}2 (out), K4 PB10 (io), K10 ~{HALT} (io), K12 ~{DTACK} (io), L1 IAC (out), L2 ~{CS}3 (out), L3 PB9 (io), L4 ~{TOUT}2/PB6 (io), L6 ~{AS} (io), L8 ~{IPL}2/~{IRQ}7 (~{BG}) (in), L10 BUSW (in), L11 XFC, L12 ~{RESET} (io), L13 ~{RTS}1/L1RQ/GCIDCL (out), M1 ~{CS}0/~{IOUT}2 (out), M2 PB8 (io), M3 ~{WDOG}/PB7 (io), M4 TIN2/PB5 (io), M5 ~{WEH}/A0 (~{UDS}/~{A}0) (io), M6 ~{OE} (R/~{W}) (io), M8 ~{IPL}1/~{IRQ}6 (~{BGACK}) (io), M9 ~{XTAL}, M10 ~{DISCPU} (in), N1 PB11 (io), N3 TIN1/PB3 (io), N4 ~{WEL}/~{WE} (~{LDS}/~{DS}) (io), N8 ~{IPL}0/~{IRQ}1 (~{BR}) (io), N9 ~{EXTAL} (in), N10 ~{FRZ} (in), N11 AVEC (in), N12 ~{CLKO} (out)
part B pins: A6 NC, A7 VCCQ2 (power), A8 GNDQ2 (power), A9 NC, A12 GNDQ4 (power), B3 GNDQ3 (power), B6 NC, B7 GNDQ2 (power), B8 NC, B10 GNDD2 (power), C5 GNDD1 (power), C7 NC, C8 VCCD1 (power), C13 NC, D4 GNDA1 (power), E2 VCCA1 (power), E3 VCCA1 (power), E11 GNDS1 (power), E12 NC, F13 NC, G1 GNDA2 (power), G12 VCCS1 (power), G13 VCCQ3 (power), J2 GNDA3 (power), J3 VCCA2 (power), J4 NC, J10 VCCSYN (power), J11 NC, K5 GNDP (power), K9 NC, K11 NC, K13 GNDS2 (power), L5 VCCP1 (power), L7 GNDQ1 (power), L9 NC, M7 VCCQ1 (power), M11 GNDSYN (power), M12 NC, M13 NC, N2 NC, N5 GNDP2 (power), N6 VCCQ1 (power), N7 GNDQ1 (power), N13 NC

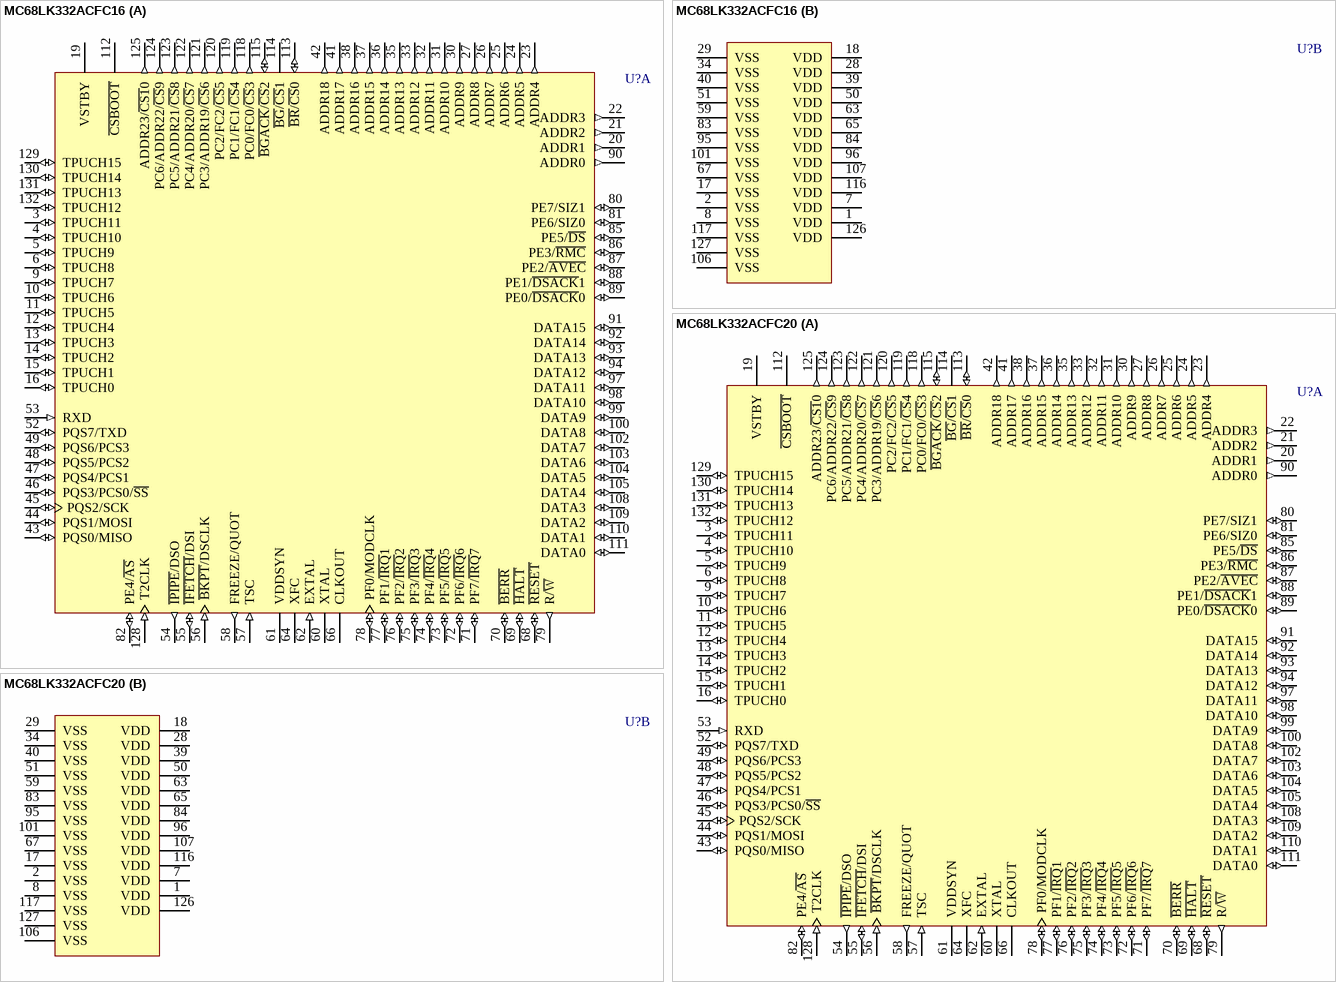
[diagram p39: symbols MC68LK332ACFC16 to MC68LK332ACFC20]